# Altium integrated library Microchip Microcontroller 8-Bit PIC18.IntLib: 1070 symbols (part 17 of 43)
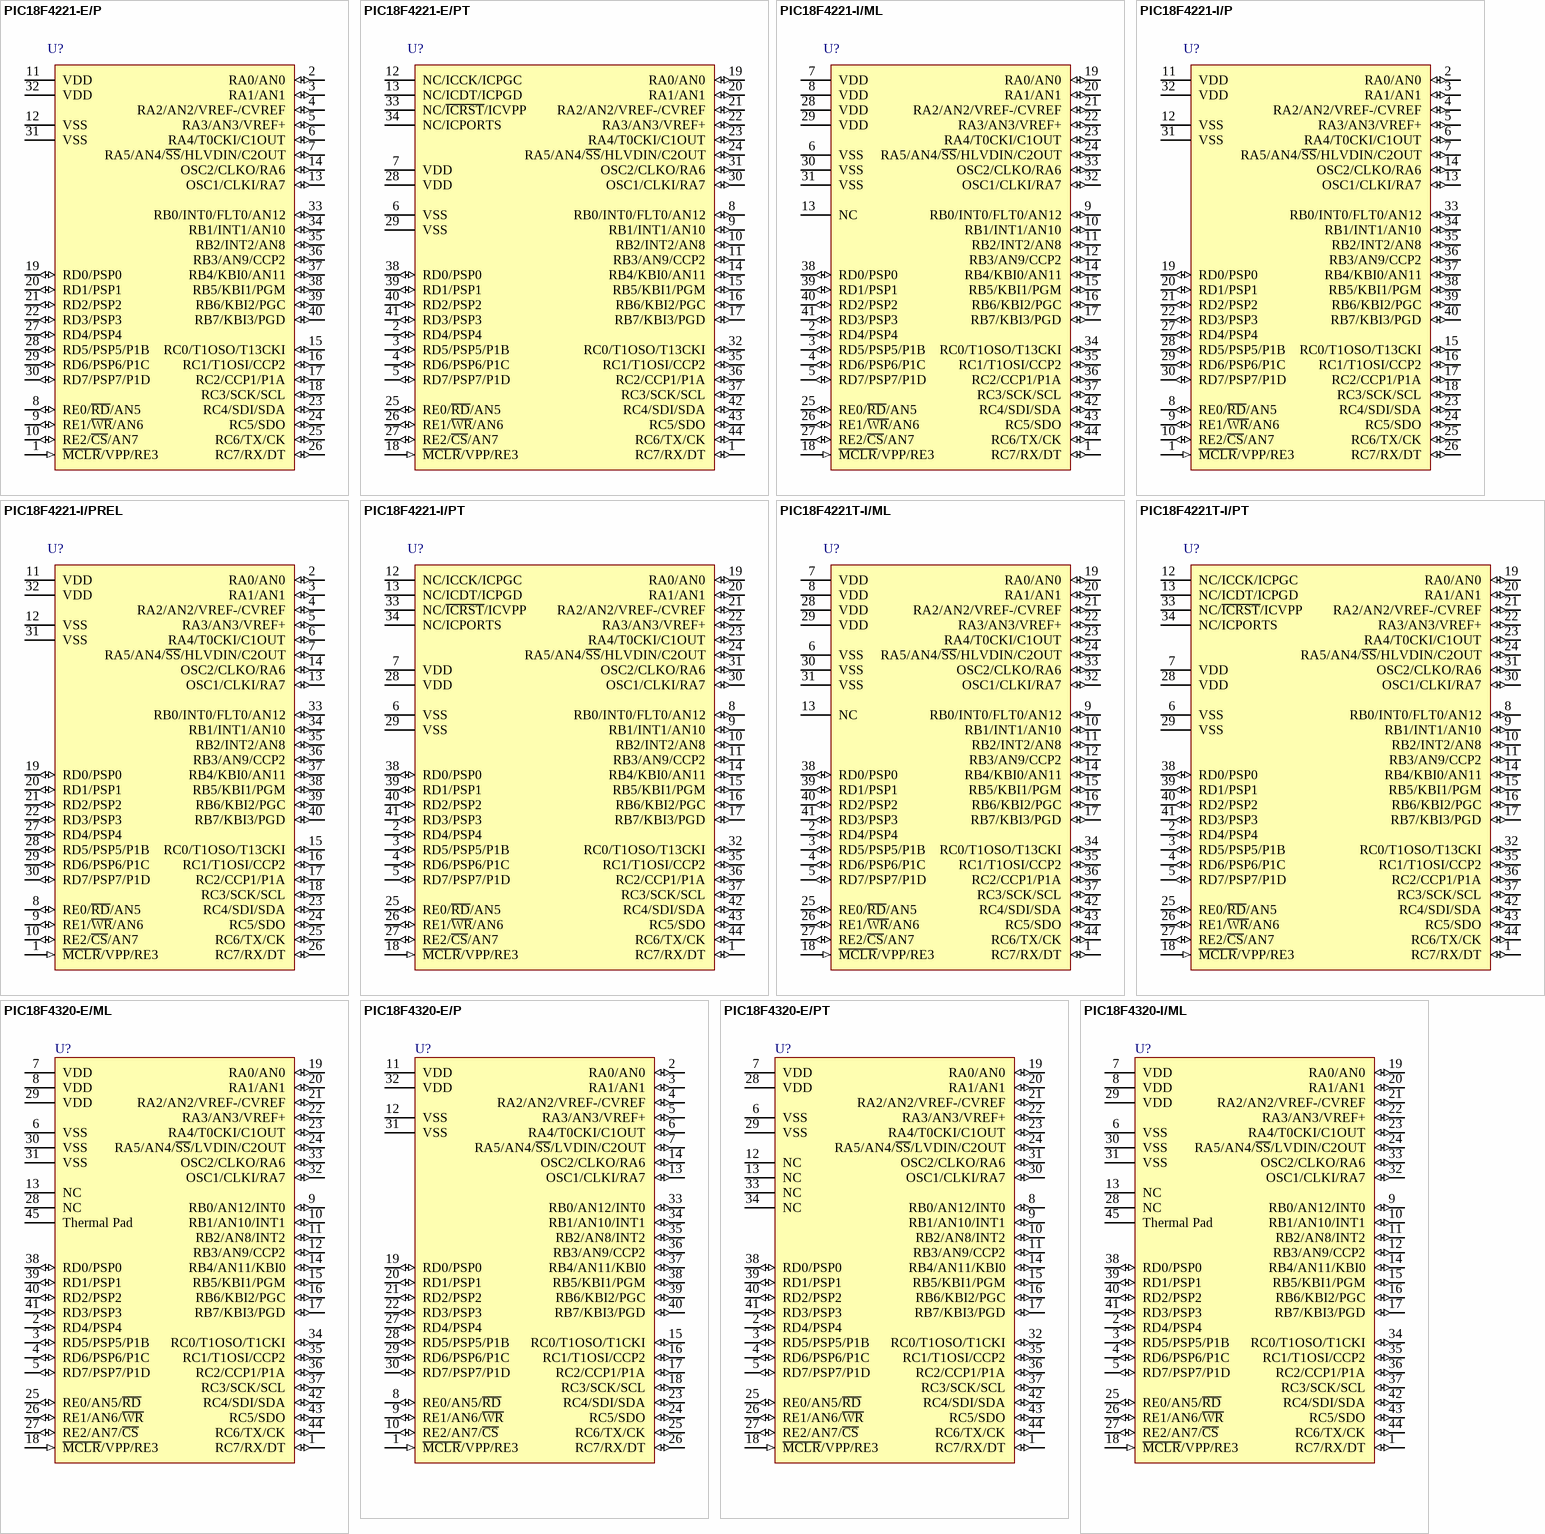
[diagram p140: symbols PIC18F4221-E/P to PIC18F4320-I/ML]

## PIC18F4320-E/PT
designator U?
High Performance, Enhanced Flash Microcontroller with 10-Bit A/D and nanoWatt Technology, 8K Flash, 44-Pin TQFP, Extended Temperature; Published: 11-Oct-2004; LatestRevisionDate: 29-Jan-2009; LatestRevisionNote: Sch. layout revised. 3D Model Removed.; DatasheetVersion: revG, Dec-2007; PackageVersion: revAW, Oct-2008; PackageReference: TQFP-PT44; Publisher: Altium Limited; PackageDescription: 44-Lead Plastic Thin Quad Flatpack (PT) - 10x10x1mm Body, 2.00mm [TQFP]; Code_JEDEC: MS-026; ComponentLink1Description: Manufacturer Link; ComponentLink1URL: http://www.microchip.com; ComponentLink2Description: Datasheet; ComponentLink2URL: http://ww1.microchip.com/downloads/en/DeviceDoc/39599g.pdf; ComponentLink3Description: Packaging Specification; ComponentLink3URL: http://ww1.microchip.com/downloads/en/PackagingSpec/00049AW.pdf
footprint TQFP-PT44_N (Thin QFP, 44-Leads, Body 10x10mm, Pitch 0.8mm, IPC Medium Density)
footprint TQFP-PT44_L (Thin QFP, 44-Leads, Body 10x10mm, Pitch 0.8mm, IPC High Density)
footprint TQFP-PT44_M (Thin QFP, 44-Leads, Body 10x10mm, Pitch 0.8mm, IPC Low Density)
pins: 1 RC7/RX/DT (io), 2 RD4/PSP4 (io), 3 RD5/PSP5/P1B (io), 4 RD6/PSP6/P1C (io), 5 RD7/PSP7/P1D (io), 6 VSS (power), 7 VDD (power), 8 RB0/AN12/INT0 (io), 9 RB1/AN10/INT1 (io), 10 RB2/AN8/INT2 (io), 11 RB3/AN9/CCP2 (io), 12 NC, 13 NC, 14 RB4/AN11/KBI0 (io), 15 RB5/KBI1/PGM (io), 16 RB6/KBI2/PGC (io), 17 RB7/KBI3/PGD (io), 18 ~{MCLR}/VPP/RE3 (in), 19 RA0/AN0 (io), 20 RA1/AN1 (io), 21 RA2/AN2/VREF-/CVREF (io), 22 RA3/AN3/VREF+ (io), 23 RA4/T0CKI/C1OUT (io), 24 RA5/AN4/~{SS}/LVDIN/C2OUT (io), 25 RE0/AN5/~{RD} (io), 26 RE1/AN6/~{WR} (io), 27 RE2/AN7/~{CS} (io), 28 VDD (power), 29 VSS (power), 30 OSC1/CLKI/RA7 (io), 31 OSC2/CLKO/RA6 (io), 32 RC0/T1OSO/T1CKI (io), 33 NC, 34 NC, 35 RC1/T1OSI/CCP2 (io), 36 RC2/CCP1/P1A (io), 37 RC3/SCK/SCL (io), 38 RD0/PSP0 (io), 39 RD1/PSP1 (io), 40 RD2/PSP2 (io), 41 RD3/PSP3 (io), 42 RC4/SDI/SDA (io), 43 RC5/SDO (io), 44 RC6/TX/CK (io)

## PIC18F4320-I/ML
designator U?
High Performance, Enhanced Flash Microcontroller with 10-Bit A/D and nanoWatt Technology, 8K Flash, 44-Pin QFN, Industrial Temperature; Published: 11-Oct-2004; LatestRevisionDate: 29-Jan-2009; LatestRevisionNote: Sch. layout revised. 3D Model Removed.; DatasheetVersion: revG, Dec-2007; PackageVersion: revAW, Oct-2008; PackageReference: QFN-ML44; Publisher: Altium Limited; PackageDescription: 44-Lead Plastic Quad Flat, No Lead Package (ML) - 8x8 mm Body [QFN]; Code_JEDEC: MO-220; Code_IPC: QFN65P800X800-44V2; ComponentLink1Description: Manufacturer Link; ComponentLink1URL: http://www.microchip.com; ComponentLink2Description: Datasheet; ComponentLink2URL: http://ww1.microchip.com/downloads/en/DeviceDoc/39599g.pdf; ComponentLink3Description: Packaging Specification; ComponentLink3URL: http://ww1.microchip.com/downloads/en/PackagingSpec/00049AW.pdf
footprint QFN-ML44_N (QFN, 44-Leads, Body 8x8 mm, Pitch 0.65mm, IPC Medium Density)
footprint QFN-ML44_L (QFN, 44-Leads, Body 8x8 mm, Pitch 0.65mm, IPC High Density)
footprint QFN-ML44_M (QFN, 44-Leads, Body 8x8 mm, Pitch 0.65mm, IPC Low Density)
pins: 1 RC7/RX/DT (io), 2 RD4/PSP4 (io), 3 RD5/PSP5/P1B (io), 4 RD6/PSP6/P1C (io), 5 RD7/PSP7/P1D (io), 6 VSS (power), 7 VDD (power), 8 VDD (power), 9 RB0/AN12/INT0 (io), 10 RB1/AN10/INT1 (io), 11 RB2/AN8/INT2 (io), 12 RB3/AN9/CCP2 (io), 13 NC, 14 RB4/AN11/KBI0 (io), 15 RB5/KBI1/PGM (io), 16 RB6/KBI2/PGC (io), 17 RB7/KBI3/PGD (io), 18 ~{MCLR}/VPP/RE3 (in), 19 RA0/AN0 (io), 20 RA1/AN1 (io), 21 RA2/AN2/VREF-/CVREF (io), 22 RA3/AN3/VREF+ (io), 23 RA4/T0CKI/C1OUT (io), 24 RA5/AN4/~{SS}/LVDIN/C2OUT (io), 25 RE0/AN5/~{RD} (io), 26 RE1/AN6/~{WR} (io), 27 RE2/AN7/~{CS} (io), 28 NC, 29 VDD (power), 30 VSS (power), 31 VSS (power), 32 OSC1/CLKI/RA7 (io), 33 OSC2/CLKO/RA6 (io), 34 RC0/T1OSO/T1CKI (io), 35 RC1/T1OSI/CCP2 (io), 36 RC2/CCP1/P1A (io), 37 RC3/SCK/SCL (io), 38 RD0/PSP0 (io), 39 RD1/PSP1 (io), 40 RD2/PSP2 (io), 41 RD3/PSP3 (io), 42 RC4/SDI/SDA (io), 43 RC5/SDO (io), 44 RC6/TX/CK (io), 45 Thermal Pad (power)

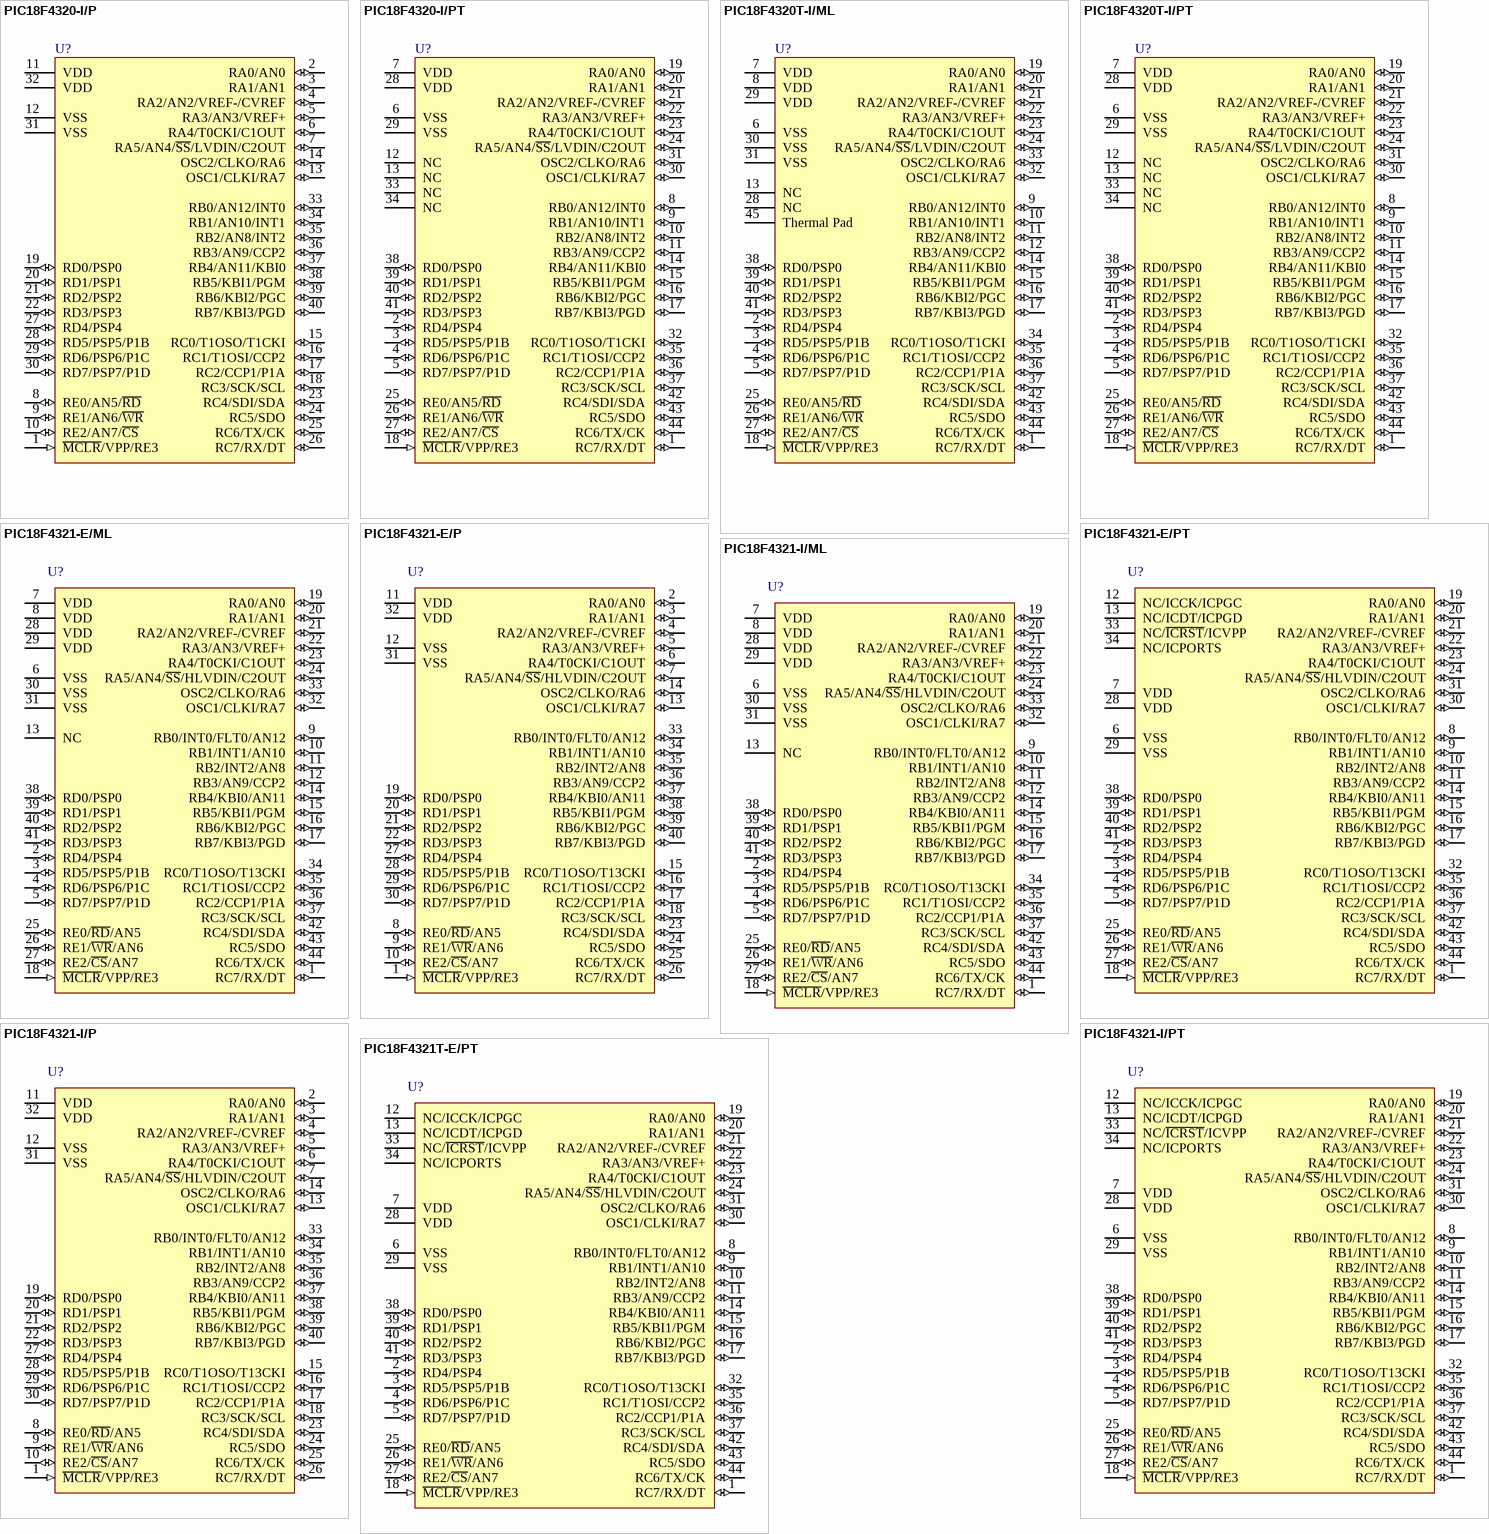
[diagram p49: symbols PIC18F4320-I/P to PIC18F4321T-E/PT]

## PIC18F4320-I/P
designator U?
High Performance, Enhanced Flash Microcontroller with 10-Bit A/D and nanoWatt Technology, 8K Flash, 40-Pin PDIP, Industrial Temperature; Published: 11-Oct-2004; LatestRevisionDate: 29-Jan-2009; LatestRevisionNote: Sch. layout revised. 3D Model Removed.; DatasheetVersion: revG, Dec-2007; PackageVersion: revAW, Oct-2008; PackageReference: PDIP600-P40; Publisher: Altium Limited; PackageDescription: 40-Lead Plastic Dual In-Line (P) - 600 mil Body [PDIP]; ComponentLink1Description: Manufacturer Link; ComponentLink1URL: http://www.microchip.com; ComponentLink2Description: Datasheet; ComponentLink2URL: http://ww1.microchip.com/downloads/en/DeviceDoc/39599g.pdf; ComponentLink3Description: Packaging Specification; ComponentLink3URL: http://ww1.microchip.com/downloads/en/PackagingSpec/00049AW.pdf
footprint PDIP600-P40 (DIP, 40-Leads, Row Spacing 15.24mm, Pitch 2.54mm, Body 51.8x13.5mm)
pins: 1 ~{MCLR}/VPP/RE3 (in), 2 RA0/AN0 (io), 3 RA1/AN1 (io), 4 RA2/AN2/VREF-/CVREF (io), 5 RA3/AN3/VREF+ (io), 6 RA4/T0CKI/C1OUT (io), 7 RA5/AN4/~{SS}/LVDIN/C2OUT (io), 8 RE0/AN5/~{RD} (io), 9 RE1/AN6/~{WR} (io), 10 RE2/AN7/~{CS} (io), 11 VDD (power), 12 VSS (power), 13 OSC1/CLKI/RA7 (io), 14 OSC2/CLKO/RA6 (io), 15 RC0/T1OSO/T1CKI (io), 16 RC1/T1OSI/CCP2 (io), 17 RC2/CCP1/P1A (io), 18 RC3/SCK/SCL (io), 19 RD0/PSP0 (io), 20 RD1/PSP1 (io), 21 RD2/PSP2 (io), 22 RD3/PSP3 (io), 23 RC4/SDI/SDA (io), 24 RC5/SDO (io), 25 RC6/TX/CK (io), 26 RC7/RX/DT (io), 27 RD4/PSP4 (io), 28 RD5/PSP5/P1B (io), 29 RD6/PSP6/P1C (io), 30 RD7/PSP7/P1D (io), 31 VSS (power), 32 VDD (power), 33 RB0/AN12/INT0 (io), 34 RB1/AN10/INT1 (io), 35 RB2/AN8/INT2 (io), 36 RB3/AN9/CCP2 (io), 37 RB4/AN11/KBI0 (io), 38 RB5/KBI1/PGM (io), 39 RB6/KBI2/PGC (io), 40 RB7/KBI3/PGD (io)

## PIC18F4320-I/PT
designator U?
High Performance, Enhanced Flash Microcontroller with 10-Bit A/D and nanoWatt Technology, 8K Flash, 44-Pin TQFP, Industrial Temperature; Published: 11-Oct-2004; LatestRevisionDate: 29-Jan-2009; LatestRevisionNote: Sch. layout revised. 3D Model Removed.; DatasheetVersion: revG, Dec-2007; PackageVersion: revAW, Oct-2008; PackageReference: TQFP-PT44; Publisher: Altium Limited; PackageDescription: 44-Lead Plastic Thin Quad Flatpack (PT) - 10x10x1mm Body, 2.00mm [TQFP]; Code_JEDEC: MS-026; ComponentLink1Description: Manufacturer Link; ComponentLink1URL: http://www.microchip.com; ComponentLink2Description: Datasheet; ComponentLink2URL: http://ww1.microchip.com/downloads/en/DeviceDoc/39599g.pdf; ComponentLink3Description: Packaging Specification; ComponentLink3URL: http://ww1.microchip.com/downloads/en/PackagingSpec/00049AW.pdf
footprint TQFP-PT44_N (Thin QFP, 44-Leads, Body 10x10mm, Pitch 0.8mm, IPC Medium Density)
footprint TQFP-PT44_L (Thin QFP, 44-Leads, Body 10x10mm, Pitch 0.8mm, IPC High Density)
footprint TQFP-PT44_M (Thin QFP, 44-Leads, Body 10x10mm, Pitch 0.8mm, IPC Low Density)
pins: 1 RC7/RX/DT (io), 2 RD4/PSP4 (io), 3 RD5/PSP5/P1B (io), 4 RD6/PSP6/P1C (io), 5 RD7/PSP7/P1D (io), 6 VSS (power), 7 VDD (power), 8 RB0/AN12/INT0 (io), 9 RB1/AN10/INT1 (io), 10 RB2/AN8/INT2 (io), 11 RB3/AN9/CCP2 (io), 12 NC, 13 NC, 14 RB4/AN11/KBI0 (io), 15 RB5/KBI1/PGM (io), 16 RB6/KBI2/PGC (io), 17 RB7/KBI3/PGD (io), 18 ~{MCLR}/VPP/RE3 (in), 19 RA0/AN0 (io), 20 RA1/AN1 (io), 21 RA2/AN2/VREF-/CVREF (io), 22 RA3/AN3/VREF+ (io), 23 RA4/T0CKI/C1OUT (io), 24 RA5/AN4/~{SS}/LVDIN/C2OUT (io), 25 RE0/AN5/~{RD} (io), 26 RE1/AN6/~{WR} (io), 27 RE2/AN7/~{CS} (io), 28 VDD (power), 29 VSS (power), 30 OSC1/CLKI/RA7 (io), 31 OSC2/CLKO/RA6 (io), 32 RC0/T1OSO/T1CKI (io), 33 NC, 34 NC, 35 RC1/T1OSI/CCP2 (io), 36 RC2/CCP1/P1A (io), 37 RC3/SCK/SCL (io), 38 RD0/PSP0 (io), 39 RD1/PSP1 (io), 40 RD2/PSP2 (io), 41 RD3/PSP3 (io), 42 RC4/SDI/SDA (io), 43 RC5/SDO (io), 44 RC6/TX/CK (io)

## PIC18F4320T-I/ML
designator U?
High Performance, Enhanced Flash Microcontroller with 10-Bit A/D and nanoWatt Technology, 8K Flash, 44-Pin QFN, Industrial Temperature, Tape and Reel; Published: 11-Oct-2004; LatestRevisionDate: 29-Jan-2009; LatestRevisionNote: Sch. layout revised. 3D Model Removed.; DatasheetVersion: revG, Dec-2007; PackageVersion: revAW, Oct-2008; PackageReference: QFN-ML44; Publisher: Altium Limited; PackageDescription: 44-Lead Plastic Quad Flat, No Lead Package (ML) - 8x8 mm Body [QFN]; Code_JEDEC: MO-220; Code_IPC: QFN65P800X800-44V2; ComponentLink1Description: Manufacturer Link; ComponentLink1URL: http://www.microchip.com; ComponentLink2Description: Datasheet; ComponentLink2URL: http://ww1.microchip.com/downloads/en/DeviceDoc/39599g.pdf; ComponentLink3Description: Packaging Specification; ComponentLink3URL: http://ww1.microchip.com/downloads/en/PackagingSpec/00049AW.pdf
footprint QFN-ML44_N (QFN, 44-Leads, Body 8x8 mm, Pitch 0.65mm, IPC Medium Density)
footprint QFN-ML44_L (QFN, 44-Leads, Body 8x8 mm, Pitch 0.65mm, IPC High Density)
footprint QFN-ML44_M (QFN, 44-Leads, Body 8x8 mm, Pitch 0.65mm, IPC Low Density)
pins: 1 RC7/RX/DT (io), 2 RD4/PSP4 (io), 3 RD5/PSP5/P1B (io), 4 RD6/PSP6/P1C (io), 5 RD7/PSP7/P1D (io), 6 VSS (power), 7 VDD (power), 8 VDD (power), 9 RB0/AN12/INT0 (io), 10 RB1/AN10/INT1 (io), 11 RB2/AN8/INT2 (io), 12 RB3/AN9/CCP2 (io), 13 NC, 14 RB4/AN11/KBI0 (io), 15 RB5/KBI1/PGM (io), 16 RB6/KBI2/PGC (io), 17 RB7/KBI3/PGD (io), 18 ~{MCLR}/VPP/RE3 (in), 19 RA0/AN0 (io), 20 RA1/AN1 (io), 21 RA2/AN2/VREF-/CVREF (io), 22 RA3/AN3/VREF+ (io), 23 RA4/T0CKI/C1OUT (io), 24 RA5/AN4/~{SS}/LVDIN/C2OUT (io), 25 RE0/AN5/~{RD} (io), 26 RE1/AN6/~{WR} (io), 27 RE2/AN7/~{CS} (io), 28 NC, 29 VDD (power), 30 VSS (power), 31 VSS (power), 32 OSC1/CLKI/RA7 (io), 33 OSC2/CLKO/RA6 (io), 34 RC0/T1OSO/T1CKI (io), 35 RC1/T1OSI/CCP2 (io), 36 RC2/CCP1/P1A (io), 37 RC3/SCK/SCL (io), 38 RD0/PSP0 (io), 39 RD1/PSP1 (io), 40 RD2/PSP2 (io), 41 RD3/PSP3 (io), 42 RC4/SDI/SDA (io), 43 RC5/SDO (io), 44 RC6/TX/CK (io), 45 Thermal Pad (power)

## PIC18F4320T-I/PT
designator U?
High Performance, Enhanced Flash Microcontroller with 10-Bit A/D and nanoWatt Technology, 8K Flash, 44-Pin TQFP, Industrial Temperature, Tape and Reel; Published: 11-Oct-2004; LatestRevisionDate: 29-Jan-2009; LatestRevisionNote: Sch. layout revised. 3D Model Removed.; DatasheetVersion: revG, Dec-2007; PackageVersion: revAW, Oct-2008; PackageReference: TQFP-PT44; Publisher: Altium Limited; PackageDescription: 44-Lead Plastic Thin Quad Flatpack (PT) - 10x10x1mm Body, 2.00mm [TQFP]; Code_JEDEC: MS-026; ComponentLink1Description: Manufacturer Link; ComponentLink1URL: http://www.microchip.com; ComponentLink2Description: Datasheet; ComponentLink2URL: http://ww1.microchip.com/downloads/en/DeviceDoc/39599g.pdf; ComponentLink3Description: Packaging Specification; ComponentLink3URL: http://ww1.microchip.com/downloads/en/PackagingSpec/00049AW.pdf
footprint TQFP-PT44_N (Thin QFP, 44-Leads, Body 10x10mm, Pitch 0.8mm, IPC Medium Density)
footprint TQFP-PT44_L (Thin QFP, 44-Leads, Body 10x10mm, Pitch 0.8mm, IPC High Density)
footprint TQFP-PT44_M (Thin QFP, 44-Leads, Body 10x10mm, Pitch 0.8mm, IPC Low Density)
pins: 1 RC7/RX/DT (io), 2 RD4/PSP4 (io), 3 RD5/PSP5/P1B (io), 4 RD6/PSP6/P1C (io), 5 RD7/PSP7/P1D (io), 6 VSS (power), 7 VDD (power), 8 RB0/AN12/INT0 (io), 9 RB1/AN10/INT1 (io), 10 RB2/AN8/INT2 (io), 11 RB3/AN9/CCP2 (io), 12 NC, 13 NC, 14 RB4/AN11/KBI0 (io), 15 RB5/KBI1/PGM (io), 16 RB6/KBI2/PGC (io), 17 RB7/KBI3/PGD (io), 18 ~{MCLR}/VPP/RE3 (in), 19 RA0/AN0 (io), 20 RA1/AN1 (io), 21 RA2/AN2/VREF-/CVREF (io), 22 RA3/AN3/VREF+ (io), 23 RA4/T0CKI/C1OUT (io), 24 RA5/AN4/~{SS}/LVDIN/C2OUT (io), 25 RE0/AN5/~{RD} (io), 26 RE1/AN6/~{WR} (io), 27 RE2/AN7/~{CS} (io), 28 VDD (power), 29 VSS (power), 30 OSC1/CLKI/RA7 (io), 31 OSC2/CLKO/RA6 (io), 32 RC0/T1OSO/T1CKI (io), 33 NC, 34 NC, 35 RC1/T1OSI/CCP2 (io), 36 RC2/CCP1/P1A (io), 37 RC3/SCK/SCL (io), 38 RD0/PSP0 (io), 39 RD1/PSP1 (io), 40 RD2/PSP2 (io), 41 RD3/PSP3 (io), 42 RC4/SDI/SDA (io), 43 RC5/SDO (io), 44 RC6/TX/CK (io)

## PIC18F4321-E/ML
designator U?
Enhanced Flash Microcontroller with 10-Bit A/D and nanoWatt Technology, 8K Flash, 44-Pin QFN, Extended Temperature Range; Published: 29-Jan-2009; DatasheetVersion: revE, Feb-2007; PackageVersion: revAW, Oct-2008; PackageReference: QFN-ML44; Publisher: Altium Limited; PackageDescription: 44-Lead Plastic Quad Flat, No Lead Package (ML) - 8x8 mm Body [QFN]; Code_JEDEC: MO-220; Code_IPC: QFN65P800X800-44V2; ComponentLink1Description: Manufacturer Link; ComponentLink1URL: http://www.microchip.com; ComponentLink2Description: Datasheet; ComponentLink2URL: http://ww1.microchip.com/downloads/en/DeviceDoc/39689E.pdf; ComponentLink3Description: Packaging Specification; ComponentLink3URL: http://ww1.microchip.com/downloads/en/PackagingSpec/00049AW.pdf
footprint QFN-ML44_N (QFN, 44-Leads, Body 8x8 mm, Pitch 0.65mm, IPC Medium Density)
footprint QFN-ML44_L (QFN, 44-Leads, Body 8x8 mm, Pitch 0.65mm, IPC High Density)
footprint QFN-ML44_M (QFN, 44-Leads, Body 8x8 mm, Pitch 0.65mm, IPC Low Density)
pins: 1 RC7/RX/DT (io), 2 RD4/PSP4 (io), 3 RD5/PSP5/P1B (io), 4 RD6/PSP6/P1C (io), 5 RD7/PSP7/P1D (io), 6 VSS (power), 7 VDD (power), 8 VDD (power), 9 RB0/INT0/FLT0/AN12 (io), 10 RB1/INT1/AN10 (io), 11 RB2/INT2/AN8 (io), 12 RB3/AN9/CCP2 (io), 13 NC, 14 RB4/KBI0/AN11 (io), 15 RB5/KBI1/PGM (io), 16 RB6/KBI2/PGC (io), 17 RB7/KBI3/PGD (io), 18 ~{MCLR}/VPP/RE3 (in), 19 RA0/AN0 (io), 20 RA1/AN1 (io), 21 RA2/AN2/VREF-/CVREF (io), 22 RA3/AN3/VREF+ (io), 23 RA4/T0CKI/C1OUT (io), 24 RA5/AN4/~{SS}/HLVDIN/C2OUT (io), 25 RE0/~{RD}/AN5 (io), 26 RE1/~{WR}/AN6 (io), 27 RE2/~{CS}/AN7 (io), 28 VDD (power), 29 VDD (power), 30 VSS (power), 31 VSS (power), 32 OSC1/CLKI/RA7 (io), 33 OSC2/CLKO/RA6 (io), 34 RC0/T1OSO/T13CKI (io), 35 RC1/T1OSI/CCP2 (io), 36 RC2/CCP1/P1A (io), 37 RC3/SCK/SCL (io), 38 RD0/PSP0 (io), 39 RD1/PSP1 (io), 40 RD2/PSP2 (io), 41 RD3/PSP3 (io), 42 RC4/SDI/SDA (io), 43 RC5/SDO (io), 44 RC6/TX/CK (io)

## PIC18F4321-E/P
designator U?
Enhanced Flash Microcontroller with 10-Bit A/D and nanoWatt Technology, 8K Flash, 40-Pin PDIP, Extended Temperature Range; Published: 29-Jan-2009; DatasheetVersion: revE, Feb-2007; PackageVersion: revAW, Oct-2008; PackageReference: PDIP600-P40; Publisher: Altium Limited; PackageDescription: 40-Lead Plastic Dual In-Line (P) - 600 mil Body [PDIP]; ComponentLink1Description: Manufacturer Link; ComponentLink1URL: http://www.microchip.com; ComponentLink2Description: Datasheet; ComponentLink2URL: http://ww1.microchip.com/downloads/en/DeviceDoc/39689E.pdf; ComponentLink3Description: Packaging Specification; ComponentLink3URL: http://ww1.microchip.com/downloads/en/PackagingSpec/00049AW.pdf
footprint PDIP600-P40 (DIP, 40-Leads, Row Spacing 15.24mm, Pitch 2.54mm, Body 51.8x13.5mm)
pins: 1 ~{MCLR}/VPP/RE3 (in), 2 RA0/AN0 (io), 3 RA1/AN1 (io), 4 RA2/AN2/VREF-/CVREF (io), 5 RA3/AN3/VREF+ (io), 6 RA4/T0CKI/C1OUT (io), 7 RA5/AN4/~{SS}/HLVDIN/C2OUT (io), 8 RE0/~{RD}/AN5 (io), 9 RE1/~{WR}/AN6 (io), 10 RE2/~{CS}/AN7 (io), 11 VDD (power), 12 VSS (power), 13 OSC1/CLKI/RA7 (io), 14 OSC2/CLKO/RA6 (io), 15 RC0/T1OSO/T13CKI (io), 16 RC1/T1OSI/CCP2 (io), 17 RC2/CCP1/P1A (io), 18 RC3/SCK/SCL (io), 19 RD0/PSP0 (io), 20 RD1/PSP1 (io), 21 RD2/PSP2 (io), 22 RD3/PSP3 (io), 23 RC4/SDI/SDA (io), 24 RC5/SDO (io), 25 RC6/TX/CK (io), 26 RC7/RX/DT (io), 27 RD4/PSP4 (io), 28 RD5/PSP5/P1B (io), 29 RD6/PSP6/P1C (io), 30 RD7/PSP7/P1D (io), 31 VSS (power), 32 VDD (power), 33 RB0/INT0/FLT0/AN12 (io), 34 RB1/INT1/AN10 (io), 35 RB2/INT2/AN8 (io), 36 RB3/AN9/CCP2 (io), 37 RB4/KBI0/AN11 (io), 38 RB5/KBI1/PGM (io), 39 RB6/KBI2/PGC (io), 40 RB7/KBI3/PGD (io)

## PIC18F4321-E/PT
designator U?
Enhanced Flash Microcontroller with 10-Bit A/D and nanoWatt Technology, 8K Flash, 44-Pin TQFP, Extended Temperature Range; Published: 29-Jan-2009; DatasheetVersion: revE, Feb-2007; PackageVersion: revAW, Oct-2008; PackageReference: TQFP-PT44; Publisher: Altium Limited; PackageDescription: 44-Lead Plastic Thin Quad Flatpack (PT) - 10x10x1mm Body, 2.00mm [TQFP]; Code_JEDEC: MS-026; ComponentLink1Description: Manufacturer Link; ComponentLink1URL: http://www.microchip.com; ComponentLink2Description: Datasheet; ComponentLink2URL: http://ww1.microchip.com/downloads/en/DeviceDoc/39689E.pdf; ComponentLink3Description: Packaging Specification; ComponentLink3URL: http://ww1.microchip.com/downloads/en/PackagingSpec/00049AW.pdf
footprint TQFP-PT44_N (Thin QFP, 44-Leads, Body 10x10mm, Pitch 0.8mm, IPC Medium Density)
footprint TQFP-PT44_L (Thin QFP, 44-Leads, Body 10x10mm, Pitch 0.8mm, IPC High Density)
footprint TQFP-PT44_M (Thin QFP, 44-Leads, Body 10x10mm, Pitch 0.8mm, IPC Low Density)
pins: 1 RC7/RX/DT (io), 2 RD4/PSP4 (io), 3 RD5/PSP5/P1B (io), 4 RD6/PSP6/P1C (io), 5 RD7/PSP7/P1D (io), 6 VSS (power), 7 VDD (power), 8 RB0/INT0/FLT0/AN12 (io), 9 RB1/INT1/AN10 (io), 10 RB2/INT2/AN8 (io), 11 RB3/AN9/CCP2 (io), 12 NC/ICCK/ICPGC, 13 NC/ICDT/ICPGD, 14 RB4/KBI0/AN11 (io), 15 RB5/KBI1/PGM (io), 16 RB6/KBI2/PGC (io), 17 RB7/KBI3/PGD (io), 18 ~{MCLR}/VPP/RE3 (in), 19 RA0/AN0 (io), 20 RA1/AN1 (io), 21 RA2/AN2/VREF-/CVREF (io), 22 RA3/AN3/VREF+ (io), 23 RA4/T0CKI/C1OUT (io), 24 RA5/AN4/~{SS}/HLVDIN/C2OUT (io), 25 RE0/~{RD}/AN5 (io), 26 RE1/~{WR}/AN6 (io), 27 RE2/~{CS}/AN7 (io), 28 VDD (power), 29 VSS (power), 30 OSC1/CLKI/RA7 (io), 31 OSC2/CLKO/RA6 (io), 32 RC0/T1OSO/T13CKI (io), 33 NC/~{ICRST}/ICVPP, 34 NC/ICPORTS, 35 RC1/T1OSI/CCP2 (io), 36 RC2/CCP1/P1A (io), 37 RC3/SCK/SCL (io), 38 RD0/PSP0 (io), 39 RD1/PSP1 (io), 40 RD2/PSP2 (io), 41 RD3/PSP3 (io), 42 RC4/SDI/SDA (io), 43 RC5/SDO (io), 44 RC6/TX/CK (io)

## PIC18F4321-I/ML
designator U?
Enhanced Flash Microcontroller with 10-Bit A/D and nanoWatt Technology, 8K Flash, 44-Pin QFN, Industrial Temperature Range; Published: 29-Jan-2009; DatasheetVersion: revE, Feb-2007; PackageVersion: revAW, Oct-2008; PackageReference: QFN-ML44; Publisher: Altium Limited; PackageDescription: 44-Lead Plastic Quad Flat, No Lead Package (ML) - 8x8 mm Body [QFN]; Code_JEDEC: MO-220; Code_IPC: QFN65P800X800-44V2; ComponentLink1Description: Manufacturer Link; ComponentLink1URL: http://www.microchip.com; ComponentLink2Description: Datasheet; ComponentLink2URL: http://ww1.microchip.com/downloads/en/DeviceDoc/39689E.pdf; ComponentLink3Description: Packaging Specification; ComponentLink3URL: http://ww1.microchip.com/downloads/en/PackagingSpec/00049AW.pdf
footprint QFN-ML44_N (QFN, 44-Leads, Body 8x8 mm, Pitch 0.65mm, IPC Medium Density)
footprint QFN-ML44_L (QFN, 44-Leads, Body 8x8 mm, Pitch 0.65mm, IPC High Density)
footprint QFN-ML44_M (QFN, 44-Leads, Body 8x8 mm, Pitch 0.65mm, IPC Low Density)
pins: 1 RC7/RX/DT (io), 2 RD4/PSP4 (io), 3 RD5/PSP5/P1B (io), 4 RD6/PSP6/P1C (io), 5 RD7/PSP7/P1D (io), 6 VSS (power), 7 VDD (power), 8 VDD (power), 9 RB0/INT0/FLT0/AN12 (io), 10 RB1/INT1/AN10 (io), 11 RB2/INT2/AN8 (io), 12 RB3/AN9/CCP2 (io), 13 NC, 14 RB4/KBI0/AN11 (io), 15 RB5/KBI1/PGM (io), 16 RB6/KBI2/PGC (io), 17 RB7/KBI3/PGD (io), 18 ~{MCLR}/VPP/RE3 (in), 19 RA0/AN0 (io), 20 RA1/AN1 (io), 21 RA2/AN2/VREF-/CVREF (io), 22 RA3/AN3/VREF+ (io), 23 RA4/T0CKI/C1OUT (io), 24 RA5/AN4/~{SS}/HLVDIN/C2OUT (io), 25 RE0/~{RD}/AN5 (io), 26 RE1/~{WR}/AN6 (io), 27 RE2/~{CS}/AN7 (io), 28 VDD (power), 29 VDD (power), 30 VSS (power), 31 VSS (power), 32 OSC1/CLKI/RA7 (io), 33 OSC2/CLKO/RA6 (io), 34 RC0/T1OSO/T13CKI (io), 35 RC1/T1OSI/CCP2 (io), 36 RC2/CCP1/P1A (io), 37 RC3/SCK/SCL (io), 38 RD0/PSP0 (io), 39 RD1/PSP1 (io), 40 RD2/PSP2 (io), 41 RD3/PSP3 (io), 42 RC4/SDI/SDA (io), 43 RC5/SDO (io), 44 RC6/TX/CK (io)

## PIC18F4321-I/P
designator U?
Enhanced Flash Microcontroller with 10-Bit A/D and nanoWatt Technology, 8K Flash, 40-Pin PDIP, Industrial Temperature Range; Published: 29-Jan-2009; DatasheetVersion: revE, Feb-2007; PackageVersion: revAW, Oct-2008; PackageReference: PDIP600-P40; Publisher: Altium Limited; PackageDescription: 40-Lead Plastic Dual In-Line (P) - 600 mil Body [PDIP]; ComponentLink1Description: Manufacturer Link; ComponentLink1URL: http://www.microchip.com; ComponentLink2Description: Datasheet; ComponentLink2URL: http://ww1.microchip.com/downloads/en/DeviceDoc/39689E.pdf; ComponentLink3Description: Packaging Specification; ComponentLink3URL: http://ww1.microchip.com/downloads/en/PackagingSpec/00049AW.pdf
footprint PDIP600-P40 (DIP, 40-Leads, Row Spacing 15.24mm, Pitch 2.54mm, Body 51.8x13.5mm)
pins: 1 ~{MCLR}/VPP/RE3 (in), 2 RA0/AN0 (io), 3 RA1/AN1 (io), 4 RA2/AN2/VREF-/CVREF (io), 5 RA3/AN3/VREF+ (io), 6 RA4/T0CKI/C1OUT (io), 7 RA5/AN4/~{SS}/HLVDIN/C2OUT (io), 8 RE0/~{RD}/AN5 (io), 9 RE1/~{WR}/AN6 (io), 10 RE2/~{CS}/AN7 (io), 11 VDD (power), 12 VSS (power), 13 OSC1/CLKI/RA7 (io), 14 OSC2/CLKO/RA6 (io), 15 RC0/T1OSO/T13CKI (io), 16 RC1/T1OSI/CCP2 (io), 17 RC2/CCP1/P1A (io), 18 RC3/SCK/SCL (io), 19 RD0/PSP0 (io), 20 RD1/PSP1 (io), 21 RD2/PSP2 (io), 22 RD3/PSP3 (io), 23 RC4/SDI/SDA (io), 24 RC5/SDO (io), 25 RC6/TX/CK (io), 26 RC7/RX/DT (io), 27 RD4/PSP4 (io), 28 RD5/PSP5/P1B (io), 29 RD6/PSP6/P1C (io), 30 RD7/PSP7/P1D (io), 31 VSS (power), 32 VDD (power), 33 RB0/INT0/FLT0/AN12 (io), 34 RB1/INT1/AN10 (io), 35 RB2/INT2/AN8 (io), 36 RB3/AN9/CCP2 (io), 37 RB4/KBI0/AN11 (io), 38 RB5/KBI1/PGM (io), 39 RB6/KBI2/PGC (io), 40 RB7/KBI3/PGD (io)

## PIC18F4321-I/PT
designator U?
Enhanced Flash Microcontroller with 10-Bit A/D and nanoWatt Technology, 8K Flash, 44-Pin TQFP, Industrial Temperature Range; Published: 29-Jan-2009; DatasheetVersion: revE, Feb-2007; PackageVersion: revAW, Oct-2008; PackageReference: TQFP-PT44; Publisher: Altium Limited; PackageDescription: 44-Lead Plastic Thin Quad Flatpack (PT) - 10x10x1mm Body, 2.00mm [TQFP]; Code_JEDEC: MS-026; ComponentLink1Description: Manufacturer Link; ComponentLink1URL: http://www.microchip.com; ComponentLink2Description: Datasheet; ComponentLink2URL: http://ww1.microchip.com/downloads/en/DeviceDoc/39689E.pdf; ComponentLink3Description: Packaging Specification; ComponentLink3URL: http://ww1.microchip.com/downloads/en/PackagingSpec/00049AW.pdf
footprint TQFP-PT44_N (Thin QFP, 44-Leads, Body 10x10mm, Pitch 0.8mm, IPC Medium Density)
footprint TQFP-PT44_L (Thin QFP, 44-Leads, Body 10x10mm, Pitch 0.8mm, IPC High Density)
footprint TQFP-PT44_M (Thin QFP, 44-Leads, Body 10x10mm, Pitch 0.8mm, IPC Low Density)
pins: 1 RC7/RX/DT (io), 2 RD4/PSP4 (io), 3 RD5/PSP5/P1B (io), 4 RD6/PSP6/P1C (io), 5 RD7/PSP7/P1D (io), 6 VSS (power), 7 VDD (power), 8 RB0/INT0/FLT0/AN12 (io), 9 RB1/INT1/AN10 (io), 10 RB2/INT2/AN8 (io), 11 RB3/AN9/CCP2 (io), 12 NC/ICCK/ICPGC, 13 NC/ICDT/ICPGD, 14 RB4/KBI0/AN11 (io), 15 RB5/KBI1/PGM (io), 16 RB6/KBI2/PGC (io), 17 RB7/KBI3/PGD (io), 18 ~{MCLR}/VPP/RE3 (in), 19 RA0/AN0 (io), 20 RA1/AN1 (io), 21 RA2/AN2/VREF-/CVREF (io), 22 RA3/AN3/VREF+ (io), 23 RA4/T0CKI/C1OUT (io), 24 RA5/AN4/~{SS}/HLVDIN/C2OUT (io), 25 RE0/~{RD}/AN5 (io), 26 RE1/~{WR}/AN6 (io), 27 RE2/~{CS}/AN7 (io), 28 VDD (power), 29 VSS (power), 30 OSC1/CLKI/RA7 (io), 31 OSC2/CLKO/RA6 (io), 32 RC0/T1OSO/T13CKI (io), 33 NC/~{ICRST}/ICVPP, 34 NC/ICPORTS, 35 RC1/T1OSI/CCP2 (io), 36 RC2/CCP1/P1A (io), 37 RC3/SCK/SCL (io), 38 RD0/PSP0 (io), 39 RD1/PSP1 (io), 40 RD2/PSP2 (io), 41 RD3/PSP3 (io), 42 RC4/SDI/SDA (io), 43 RC5/SDO (io), 44 RC6/TX/CK (io)

## PIC18F4321T-E/PT
designator U?
Enhanced Flash Microcontroller with 10-Bit A/D and nanoWatt Technology, 8K Flash, 44-Pin TQFP, Extended Temperature Range, Tape and Reel; Published: 29-Jan-2009; DatasheetVersion: revE, Feb-2007; PackageVersion: revAW, Oct-2008; PackageReference: TQFP-PT44; Publisher: Altium Limited; PackageDescription: 44-Lead Plastic Thin Quad Flatpack (PT) - 10x10x1mm Body, 2.00mm [TQFP]; Code_JEDEC: MS-026; ComponentLink1Description: Manufacturer Link; ComponentLink1URL: http://www.microchip.com; ComponentLink2Description: Datasheet; ComponentLink2URL: http://ww1.microchip.com/downloads/en/DeviceDoc/39689E.pdf; ComponentLink3Description: Packaging Specification; ComponentLink3URL: http://ww1.microchip.com/downloads/en/PackagingSpec/00049AW.pdf
footprint TQFP-PT44_N (Thin QFP, 44-Leads, Body 10x10mm, Pitch 0.8mm, IPC Medium Density)
footprint TQFP-PT44_L (Thin QFP, 44-Leads, Body 10x10mm, Pitch 0.8mm, IPC High Density)
footprint TQFP-PT44_M (Thin QFP, 44-Leads, Body 10x10mm, Pitch 0.8mm, IPC Low Density)
pins: 1 RC7/RX/DT (io), 2 RD4/PSP4 (io), 3 RD5/PSP5/P1B (io), 4 RD6/PSP6/P1C (io), 5 RD7/PSP7/P1D (io), 6 VSS (power), 7 VDD (power), 8 RB0/INT0/FLT0/AN12 (io), 9 RB1/INT1/AN10 (io), 10 RB2/INT2/AN8 (io), 11 RB3/AN9/CCP2 (io), 12 NC/ICCK/ICPGC, 13 NC/ICDT/ICPGD, 14 RB4/KBI0/AN11 (io), 15 RB5/KBI1/PGM (io), 16 RB6/KBI2/PGC (io), 17 RB7/KBI3/PGD (io), 18 ~{MCLR}/VPP/RE3 (in), 19 RA0/AN0 (io), 20 RA1/AN1 (io), 21 RA2/AN2/VREF-/CVREF (io), 22 RA3/AN3/VREF+ (io), 23 RA4/T0CKI/C1OUT (io), 24 RA5/AN4/~{SS}/HLVDIN/C2OUT (io), 25 RE0/~{RD}/AN5 (io), 26 RE1/~{WR}/AN6 (io), 27 RE2/~{CS}/AN7 (io), 28 VDD (power), 29 VSS (power), 30 OSC1/CLKI/RA7 (io), 31 OSC2/CLKO/RA6 (io), 32 RC0/T1OSO/T13CKI (io), 33 NC/~{ICRST}/ICVPP, 34 NC/ICPORTS, 35 RC1/T1OSI/CCP2 (io), 36 RC2/CCP1/P1A (io), 37 RC3/SCK/SCL (io), 38 RD0/PSP0 (io), 39 RD1/PSP1 (io), 40 RD2/PSP2 (io), 41 RD3/PSP3 (io), 42 RC4/SDI/SDA (io), 43 RC5/SDO (io), 44 RC6/TX/CK (io)

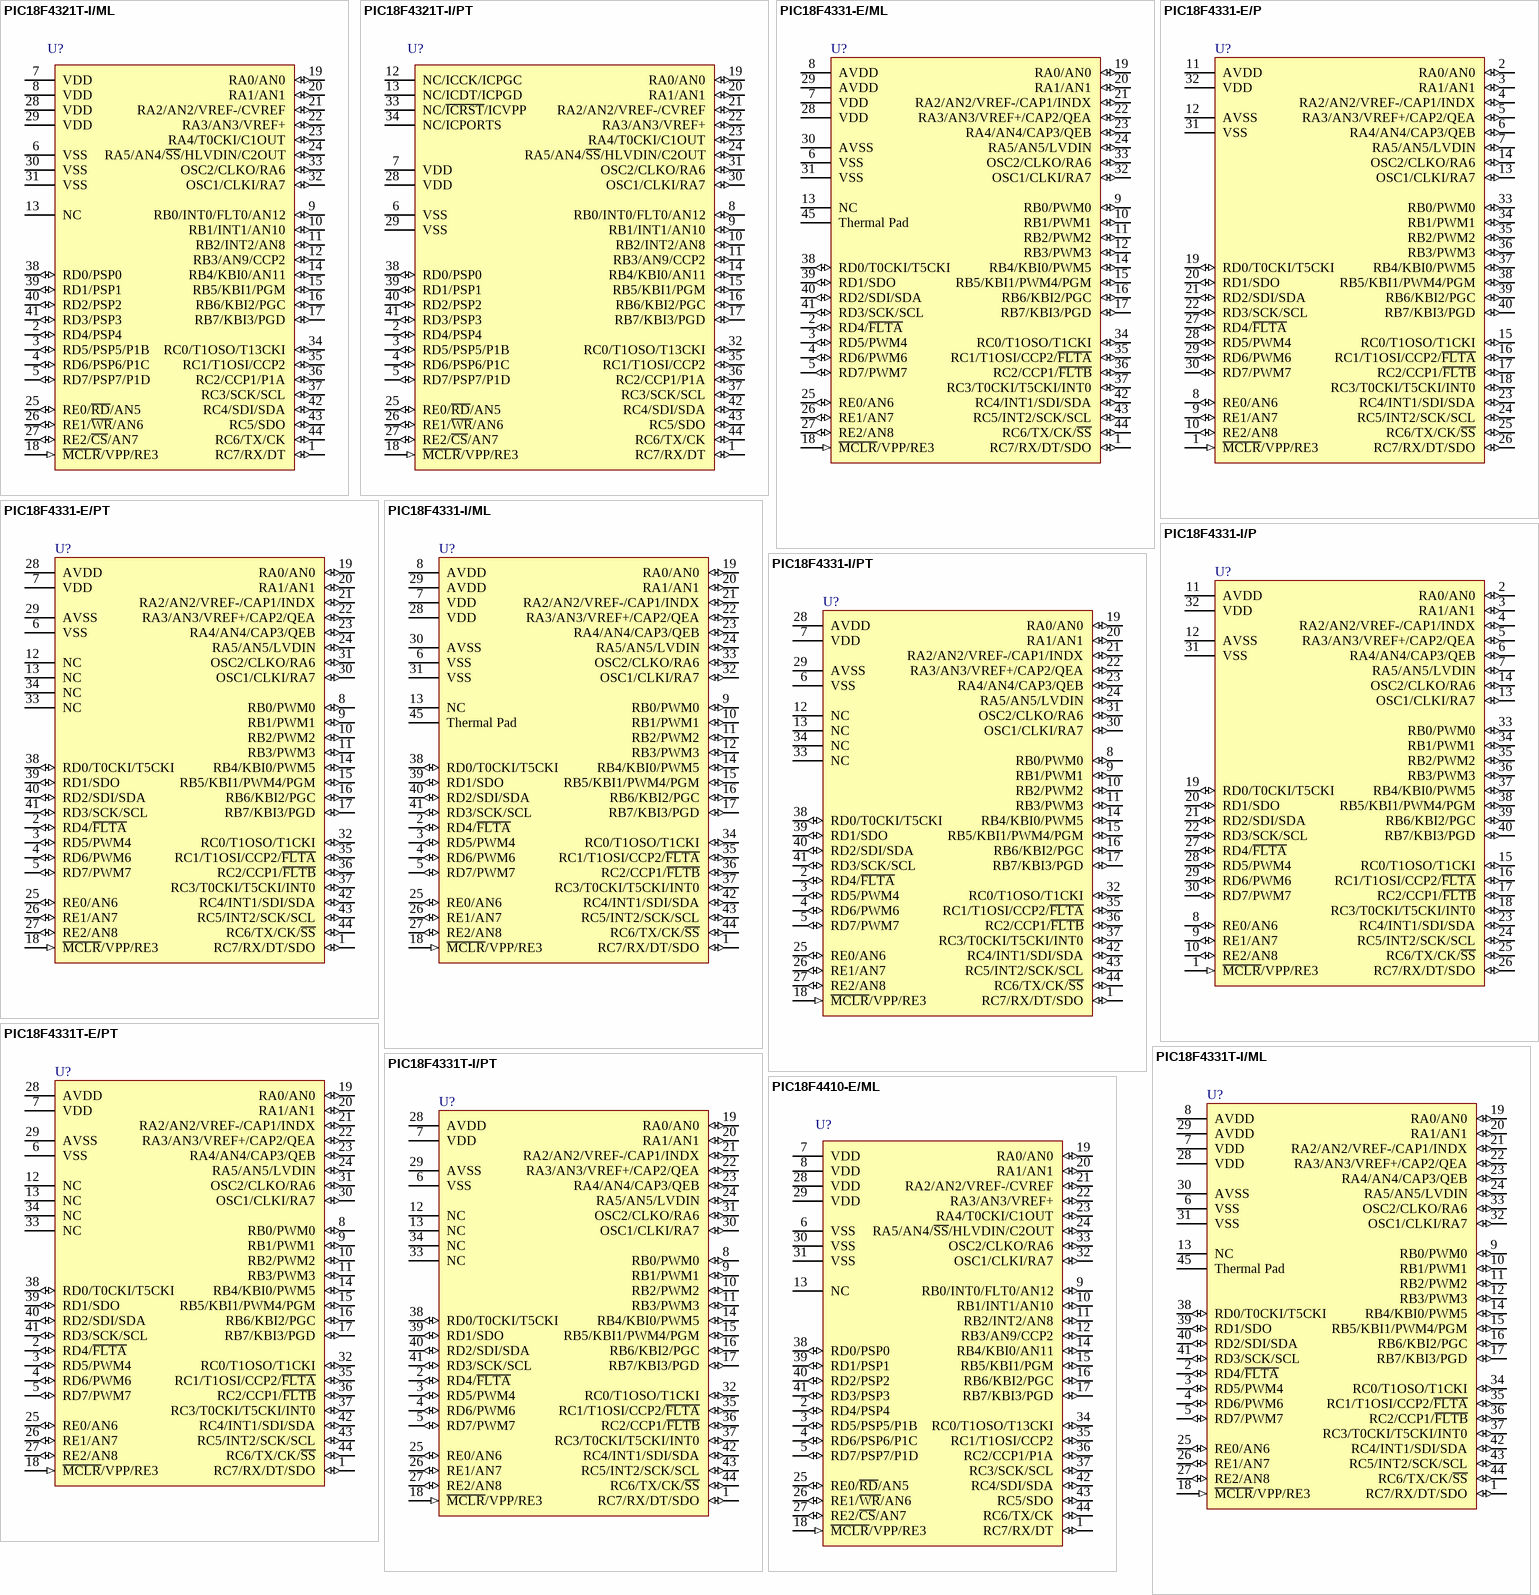
[diagram p50: symbols PIC18F4321T-I/ML to PIC18F4410-E/ML]

## PIC18F4321T-I/ML
designator U?
Enhanced Flash Microcontroller with 10-Bit A/D and nanoWatt Technology, 8K Flash, 44-Pin QFN, Industrial Temperature Range, Tape and Reel; Published: 29-Jan-2009; DatasheetVersion: revE, Feb-2007; PackageVersion: revAW, Oct-2008; PackageReference: QFN-ML44; Publisher: Altium Limited; PackageDescription: 44-Lead Plastic Quad Flat, No Lead Package (ML) - 8x8 mm Body [QFN]; Code_JEDEC: MO-220; Code_IPC: QFN65P800X800-44V2; ComponentLink1Description: Manufacturer Link; ComponentLink1URL: http://www.microchip.com; ComponentLink2Description: Datasheet; ComponentLink2URL: http://ww1.microchip.com/downloads/en/DeviceDoc/39689E.pdf; ComponentLink3Description: Packaging Specification; ComponentLink3URL: http://ww1.microchip.com/downloads/en/PackagingSpec/00049AW.pdf
footprint QFN-ML44_N (QFN, 44-Leads, Body 8x8 mm, Pitch 0.65mm, IPC Medium Density)
footprint QFN-ML44_L (QFN, 44-Leads, Body 8x8 mm, Pitch 0.65mm, IPC High Density)
footprint QFN-ML44_M (QFN, 44-Leads, Body 8x8 mm, Pitch 0.65mm, IPC Low Density)
pins: 1 RC7/RX/DT (io), 2 RD4/PSP4 (io), 3 RD5/PSP5/P1B (io), 4 RD6/PSP6/P1C (io), 5 RD7/PSP7/P1D (io), 6 VSS (power), 7 VDD (power), 8 VDD (power), 9 RB0/INT0/FLT0/AN12 (io), 10 RB1/INT1/AN10 (io), 11 RB2/INT2/AN8 (io), 12 RB3/AN9/CCP2 (io), 13 NC, 14 RB4/KBI0/AN11 (io), 15 RB5/KBI1/PGM (io), 16 RB6/KBI2/PGC (io), 17 RB7/KBI3/PGD (io), 18 ~{MCLR}/VPP/RE3 (in), 19 RA0/AN0 (io), 20 RA1/AN1 (io), 21 RA2/AN2/VREF-/CVREF (io), 22 RA3/AN3/VREF+ (io), 23 RA4/T0CKI/C1OUT (io), 24 RA5/AN4/~{SS}/HLVDIN/C2OUT (io), 25 RE0/~{RD}/AN5 (io), 26 RE1/~{WR}/AN6 (io), 27 RE2/~{CS}/AN7 (io), 28 VDD (power), 29 VDD (power), 30 VSS (power), 31 VSS (power), 32 OSC1/CLKI/RA7 (io), 33 OSC2/CLKO/RA6 (io), 34 RC0/T1OSO/T13CKI (io), 35 RC1/T1OSI/CCP2 (io), 36 RC2/CCP1/P1A (io), 37 RC3/SCK/SCL (io), 38 RD0/PSP0 (io), 39 RD1/PSP1 (io), 40 RD2/PSP2 (io), 41 RD3/PSP3 (io), 42 RC4/SDI/SDA (io), 43 RC5/SDO (io), 44 RC6/TX/CK (io)

## PIC18F4321T-I/PT
designator U?
Enhanced Flash Microcontroller with 10-Bit A/D and nanoWatt Technology, 8K Flash, 44-Pin TQFP, Industrial Temperature Range, Tape and Reel; Published: 29-Jan-2009; DatasheetVersion: revE, Feb-2007; PackageVersion: revAW, Oct-2008; PackageReference: TQFP-PT44; Publisher: Altium Limited; PackageDescription: 44-Lead Plastic Thin Quad Flatpack (PT) - 10x10x1mm Body, 2.00mm [TQFP]; Code_JEDEC: MS-026; ComponentLink1Description: Manufacturer Link; ComponentLink1URL: http://www.microchip.com; ComponentLink2Description: Datasheet; ComponentLink2URL: http://ww1.microchip.com/downloads/en/DeviceDoc/39689E.pdf; ComponentLink3Description: Packaging Specification; ComponentLink3URL: http://ww1.microchip.com/downloads/en/PackagingSpec/00049AW.pdf
footprint TQFP-PT44_N (Thin QFP, 44-Leads, Body 10x10mm, Pitch 0.8mm, IPC Medium Density)
footprint TQFP-PT44_L (Thin QFP, 44-Leads, Body 10x10mm, Pitch 0.8mm, IPC High Density)
footprint TQFP-PT44_M (Thin QFP, 44-Leads, Body 10x10mm, Pitch 0.8mm, IPC Low Density)
pins: 1 RC7/RX/DT (io), 2 RD4/PSP4 (io), 3 RD5/PSP5/P1B (io), 4 RD6/PSP6/P1C (io), 5 RD7/PSP7/P1D (io), 6 VSS (power), 7 VDD (power), 8 RB0/INT0/FLT0/AN12 (io), 9 RB1/INT1/AN10 (io), 10 RB2/INT2/AN8 (io), 11 RB3/AN9/CCP2 (io), 12 NC/ICCK/ICPGC, 13 NC/ICDT/ICPGD, 14 RB4/KBI0/AN11 (io), 15 RB5/KBI1/PGM (io), 16 RB6/KBI2/PGC (io), 17 RB7/KBI3/PGD (io), 18 ~{MCLR}/VPP/RE3 (in), 19 RA0/AN0 (io), 20 RA1/AN1 (io), 21 RA2/AN2/VREF-/CVREF (io), 22 RA3/AN3/VREF+ (io), 23 RA4/T0CKI/C1OUT (io), 24 RA5/AN4/~{SS}/HLVDIN/C2OUT (io), 25 RE0/~{RD}/AN5 (io), 26 RE1/~{WR}/AN6 (io), 27 RE2/~{CS}/AN7 (io), 28 VDD (power), 29 VSS (power), 30 OSC1/CLKI/RA7 (io), 31 OSC2/CLKO/RA6 (io), 32 RC0/T1OSO/T13CKI (io), 33 NC/~{ICRST}/ICVPP, 34 NC/ICPORTS, 35 RC1/T1OSI/CCP2 (io), 36 RC2/CCP1/P1A (io), 37 RC3/SCK/SCL (io), 38 RD0/PSP0 (io), 39 RD1/PSP1 (io), 40 RD2/PSP2 (io), 41 RD3/PSP3 (io), 42 RC4/SDI/SDA (io), 43 RC5/SDO (io), 44 RC6/TX/CK (io)

## PIC18F4331-E/ML
designator U?
Enhanced Flash Microcontroller with nanoWatt Technology, High Performance PWM and A/D, 8K Flash, 44-Pin QFN, Extended Temperature Range; Published: 29-Jan-2009; DatasheetVersion: revC, Jul-2007; PackageVersion: revAW, Oct-2008; PackageReference: QFN-ML44; Publisher: Altium Limited; PackageDescription: 44-Lead Plastic Quad Flat, No Lead Package (ML) - 8x8 mm Body [QFN]; Code_JEDEC: MO-220; Code_IPC: QFN65P800X800-44V2; ComponentLink1Description: Manufacturer Link; ComponentLink1URL: http://www.microchip.com; ComponentLink2Description: Datasheet; ComponentLink2URL: http://ww1.microchip.com/downloads/en/DeviceDoc/39616C.pdf; ComponentLink3Description: Packaging Specification; ComponentLink3URL: http://ww1.microchip.com/downloads/en/PackagingSpec/00049AW.pdf
footprint QFN-ML44_N (QFN, 44-Leads, Body 8x8 mm, Pitch 0.65mm, IPC Medium Density)
footprint QFN-ML44_L (QFN, 44-Leads, Body 8x8 mm, Pitch 0.65mm, IPC High Density)
footprint QFN-ML44_M (QFN, 44-Leads, Body 8x8 mm, Pitch 0.65mm, IPC Low Density)
pins: 1 RC7/RX/DT/SDO (io), 2 RD4/~{FLTA} (io), 3 RD5/PWM4 (io), 4 RD6/PWM6 (io), 5 RD7/PWM7 (io), 6 VSS (power), 7 VDD (power), 8 AVDD (power), 9 RB0/PWM0 (io), 10 RB1/PWM1 (io), 11 RB2/PWM2 (io), 12 RB3/PWM3 (io), 13 NC, 14 RB4/KBI0/PWM5 (io), 15 RB5/KBI1/PWM4/PGM (io), 16 RB6/KBI2/PGC (io), 17 RB7/KBI3/PGD (io), 18 ~{MCLR}/VPP/RE3 (in), 19 RA0/AN0 (io), 20 RA1/AN1 (io), 21 RA2/AN2/VREF-/CAP1/INDX (io), 22 RA3/AN3/VREF+/CAP2/QEA (io), 23 RA4/AN4/CAP3/QEB (io), 24 RA5/AN5/LVDIN (io), 25 RE0/AN6 (io), 26 RE1/AN7 (io), 27 RE2/AN8 (io), 28 VDD (power), 29 AVDD (power), 30 AVSS (power), 31 VSS (power), 32 OSC1/CLKI/RA7 (io), 33 OSC2/CLKO/RA6 (io), 34 RC0/T1OSO/T1CKI (io), 35 RC1/T1OSI/CCP2/~{FLTA} (io), 36 RC2/CCP1/~{FLTB} (io), 37 RC3/T0CKI/T5CKI/INT0 (io), 38 RD0/T0CKI/T5CKI (io), 39 RD1/SDO (io), 40 RD2/SDI/SDA (io), 41 RD3/SCK/SCL (io), 42 RC4/INT1/SDI/SDA (io), 43 RC5/INT2/SCK/SCL (io), 44 RC6/TX/CK/~{SS} (io), 45 Thermal Pad (power)

## PIC18F4331-E/P
designator U?
Enhanced Flash Microcontroller with nanoWatt Technology, High Performance PWM and A/D, 8K Flash, 40-Pin PDIP, Extended Temperature Range; Published: 29-Jan-2009; DatasheetVersion: revC, Jul-2007; PackageVersion: revAW, Oct-2008; PackageReference: PDIP600-P40; Publisher: Altium Limited; PackageDescription: 40-Lead Plastic Dual In-Line (P) - 600 mil Body [PDIP]; ComponentLink1Description: Manufacturer Link; ComponentLink1URL: http://www.microchip.com; ComponentLink2Description: Datasheet; ComponentLink2URL: http://ww1.microchip.com/downloads/en/DeviceDoc/39616C.pdf; ComponentLink3Description: Packaging Specification; ComponentLink3URL: http://ww1.microchip.com/downloads/en/PackagingSpec/00049AW.pdf
footprint PDIP600-P40 (DIP, 40-Leads, Row Spacing 15.24mm, Pitch 2.54mm, Body 51.8x13.5mm)
pins: 1 ~{MCLR}/VPP/RE3 (in), 2 RA0/AN0 (io), 3 RA1/AN1 (io), 4 RA2/AN2/VREF-/CAP1/INDX (io), 5 RA3/AN3/VREF+/CAP2/QEA (io), 6 RA4/AN4/CAP3/QEB (io), 7 RA5/AN5/LVDIN (io), 8 RE0/AN6 (io), 9 RE1/AN7 (io), 10 RE2/AN8 (io), 11 AVDD (power), 12 AVSS (power), 13 OSC1/CLKI/RA7 (io), 14 OSC2/CLKO/RA6 (io), 15 RC0/T1OSO/T1CKI (io), 16 RC1/T1OSI/CCP2/~{FLTA} (io), 17 RC2/CCP1/~{FLTB} (io), 18 RC3/T0CKI/T5CKI/INT0 (io), 19 RD0/T0CKI/T5CKI (io), 20 RD1/SDO (io), 21 RD2/SDI/SDA (io), 22 RD3/SCK/SCL (io), 23 RC4/INT1/SDI/SDA (io), 24 RC5/INT2/SCK/SCL (io), 25 RC6/TX/CK/~{SS} (io), 26 RC7/RX/DT/SDO (io), 27 RD4/~{FLTA} (io), 28 RD5/PWM4 (io), 29 RD6/PWM6 (io), 30 RD7/PWM7 (io), 31 VSS (power), 32 VDD (power), 33 RB0/PWM0 (io), 34 RB1/PWM1 (io), 35 RB2/PWM2 (io), 36 RB3/PWM3 (io), 37 RB4/KBI0/PWM5 (io), 38 RB5/KBI1/PWM4/PGM (io), 39 RB6/KBI2/PGC (io), 40 RB7/KBI3/PGD (io)

## PIC18F4331-E/PT
designator U?
Enhanced Flash Microcontroller with nanoWatt Technology, High Performance PWM and A/D, 8K Flash, 44-Pin TQFP, Extended Temperature Range; Published: 29-Jan-2009; DatasheetVersion: revC, Jul-2007; PackageVersion: revAW, Oct-2008; PackageReference: TQFP-PT44; Publisher: Altium Limited; PackageDescription: 44-Lead Plastic Thin Quad Flatpack (PT) - 10x10x1mm Body, 2.00mm [TQFP]; Code_JEDEC: MS-026; ComponentLink1Description: Manufacturer Link; ComponentLink1URL: http://www.microchip.com; ComponentLink2Description: Datasheet; ComponentLink2URL: http://ww1.microchip.com/downloads/en/DeviceDoc/39616C.pdf; ComponentLink3Description: Packaging Specification; ComponentLink3URL: http://ww1.microchip.com/downloads/en/PackagingSpec/00049AW.pdf
footprint TQFP-PT44_N (Thin QFP, 44-Leads, Body 10x10mm, Pitch 0.8mm, IPC Medium Density)
footprint TQFP-PT44_L (Thin QFP, 44-Leads, Body 10x10mm, Pitch 0.8mm, IPC High Density)
footprint TQFP-PT44_M (Thin QFP, 44-Leads, Body 10x10mm, Pitch 0.8mm, IPC Low Density)
pins: 1 RC7/RX/DT/SDO (io), 2 RD4/~{FLTA} (io), 3 RD5/PWM4 (io), 4 RD6/PWM6 (io), 5 RD7/PWM7 (io), 6 VSS (power), 7 VDD (power), 8 RB0/PWM0 (io), 9 RB1/PWM1 (io), 10 RB2/PWM2 (io), 11 RB3/PWM3 (io), 12 NC, 13 NC, 14 RB4/KBI0/PWM5 (io), 15 RB5/KBI1/PWM4/PGM (io), 16 RB6/KBI2/PGC (io), 17 RB7/KBI3/PGD (io), 18 ~{MCLR}/VPP/RE3 (in), 19 RA0/AN0 (io), 20 RA1/AN1 (io), 21 RA2/AN2/VREF-/CAP1/INDX (io), 22 RA3/AN3/VREF+/CAP2/QEA (io), 23 RA4/AN4/CAP3/QEB (io), 24 RA5/AN5/LVDIN (io), 25 RE0/AN6 (io), 26 RE1/AN7 (io), 27 RE2/AN8 (io), 28 AVDD (power), 29 AVSS (power), 30 OSC1/CLKI/RA7 (io), 31 OSC2/CLKO/RA6 (io), 32 RC0/T1OSO/T1CKI (io), 33 NC, 34 NC, 35 RC1/T1OSI/CCP2/~{FLTA} (io), 36 RC2/CCP1/~{FLTB} (io), 37 RC3/T0CKI/T5CKI/INT0 (io), 38 RD0/T0CKI/T5CKI (io), 39 RD1/SDO (io), 40 RD2/SDI/SDA (io), 41 RD3/SCK/SCL (io), 42 RC4/INT1/SDI/SDA (io), 43 RC5/INT2/SCK/SCL (io), 44 RC6/TX/CK/~{SS} (io)

## PIC18F4331-I/ML
designator U?
Enhanced Flash Microcontroller with nanoWatt Technology, High Performance PWM and A/D, 8K Flash, 44-Pin QFN, Industrial Temperature; Published: 11-Oct-2004; LatestRevisionDate: 29-Jan-2009; LatestRevisionNote: Sch. layout revised. 3D Model Removed.; DatasheetVersion: revC, Jul-2007; PackageVersion: revAW, Oct-2008; PackageReference: QFN-ML44; Publisher: Altium Limited; PackageDescription: 44-Lead Plastic Quad Flat, No Lead Package (ML) - 8x8 mm Body [QFN]; Code_JEDEC: MO-220; Code_IPC: QFN65P800X800-44V2; ComponentLink1Description: Manufacturer Link; ComponentLink1URL: http://www.microchip.com; ComponentLink2Description: Datasheet; ComponentLink2URL: http://ww1.microchip.com/downloads/en/DeviceDoc/39616C.pdf; ComponentLink3Description: Packaging Specification; ComponentLink3URL: http://ww1.microchip.com/downloads/en/PackagingSpec/00049AW.pdf
footprint QFN-ML44_N (QFN, 44-Leads, Body 8x8 mm, Pitch 0.65mm, IPC Medium Density)
footprint QFN-ML44_L (QFN, 44-Leads, Body 8x8 mm, Pitch 0.65mm, IPC High Density)
footprint QFN-ML44_M (QFN, 44-Leads, Body 8x8 mm, Pitch 0.65mm, IPC Low Density)
pins: 1 RC7/RX/DT/SDO (io), 2 RD4/~{FLTA} (io), 3 RD5/PWM4 (io), 4 RD6/PWM6 (io), 5 RD7/PWM7 (io), 6 VSS (power), 7 VDD (power), 8 AVDD (power), 9 RB0/PWM0 (io), 10 RB1/PWM1 (io), 11 RB2/PWM2 (io), 12 RB3/PWM3 (io), 13 NC, 14 RB4/KBI0/PWM5 (io), 15 RB5/KBI1/PWM4/PGM (io), 16 RB6/KBI2/PGC (io), 17 RB7/KBI3/PGD (io), 18 ~{MCLR}/VPP/RE3 (in), 19 RA0/AN0 (io), 20 RA1/AN1 (io), 21 RA2/AN2/VREF-/CAP1/INDX (io), 22 RA3/AN3/VREF+/CAP2/QEA (io), 23 RA4/AN4/CAP3/QEB (io), 24 RA5/AN5/LVDIN (io), 25 RE0/AN6 (io), 26 RE1/AN7 (io), 27 RE2/AN8 (io), 28 VDD (power), 29 AVDD (power), 30 AVSS (power), 31 VSS (power), 32 OSC1/CLKI/RA7 (io), 33 OSC2/CLKO/RA6 (io), 34 RC0/T1OSO/T1CKI (io), 35 RC1/T1OSI/CCP2/~{FLTA} (io), 36 RC2/CCP1/~{FLTB} (io), 37 RC3/T0CKI/T5CKI/INT0 (io), 38 RD0/T0CKI/T5CKI (io), 39 RD1/SDO (io), 40 RD2/SDI/SDA (io), 41 RD3/SCK/SCL (io), 42 RC4/INT1/SDI/SDA (io), 43 RC5/INT2/SCK/SCL (io), 44 RC6/TX/CK/~{SS} (io), 45 Thermal Pad (power)

## PIC18F4331-I/P
designator U?
Enhanced Flash Microcontroller with nanoWatt Technology, High Performance PWM and A/D, 8K Flash, 40-Pin PDIP, Industrial Temperature; Published: 11-Oct-2004; LatestRevisionDate: 29-Jan-2009; LatestRevisionNote: Sch. layout revised. 3D Model Removed.; DatasheetVersion: revC, Jul-2007; PackageVersion: revAW, Oct-2008; PackageReference: PDIP600-P40; Publisher: Altium Limited; PackageDescription: 40-Lead Plastic Dual In-Line (P) - 600 mil Body [PDIP]; ComponentLink1Description: Manufacturer Link; ComponentLink1URL: http://www.microchip.com; ComponentLink2Description: Datasheet; ComponentLink2URL: http://ww1.microchip.com/downloads/en/DeviceDoc/39616C.pdf; ComponentLink3Description: Packaging Specification; ComponentLink3URL: http://ww1.microchip.com/downloads/en/PackagingSpec/00049AW.pdf
footprint PDIP600-P40 (DIP, 40-Leads, Row Spacing 15.24mm, Pitch 2.54mm, Body 51.8x13.5mm)
pins: 1 ~{MCLR}/VPP/RE3 (in), 2 RA0/AN0 (io), 3 RA1/AN1 (io), 4 RA2/AN2/VREF-/CAP1/INDX (io), 5 RA3/AN3/VREF+/CAP2/QEA (io), 6 RA4/AN4/CAP3/QEB (io), 7 RA5/AN5/LVDIN (io), 8 RE0/AN6 (io), 9 RE1/AN7 (io), 10 RE2/AN8 (io), 11 AVDD (power), 12 AVSS (power), 13 OSC1/CLKI/RA7 (io), 14 OSC2/CLKO/RA6 (io), 15 RC0/T1OSO/T1CKI (io), 16 RC1/T1OSI/CCP2/~{FLTA} (io), 17 RC2/CCP1/~{FLTB} (io), 18 RC3/T0CKI/T5CKI/INT0 (io), 19 RD0/T0CKI/T5CKI (io), 20 RD1/SDO (io), 21 RD2/SDI/SDA (io), 22 RD3/SCK/SCL (io), 23 RC4/INT1/SDI/SDA (io), 24 RC5/INT2/SCK/SCL (io), 25 RC6/TX/CK/~{SS} (io), 26 RC7/RX/DT/SDO (io), 27 RD4/~{FLTA} (io), 28 RD5/PWM4 (io), 29 RD6/PWM6 (io), 30 RD7/PWM7 (io), 31 VSS (power), 32 VDD (power), 33 RB0/PWM0 (io), 34 RB1/PWM1 (io), 35 RB2/PWM2 (io), 36 RB3/PWM3 (io), 37 RB4/KBI0/PWM5 (io), 38 RB5/KBI1/PWM4/PGM (io), 39 RB6/KBI2/PGC (io), 40 RB7/KBI3/PGD (io)

## PIC18F4331-I/PT
designator U?
Enhanced Flash Microcontroller with nanoWatt Technology, High Performance PWM and A/D, 8K Flash, 44-Pin TQFP, Industrial Temperature; Published: 11-Oct-2004; LatestRevisionDate: 29-Jan-2009; LatestRevisionNote: Sch. layout revised. 3D Model Removed.; DatasheetVersion: revC, Jul-2007; PackageVersion: revAW, Oct-2008; PackageReference: TQFP-PT44; Publisher: Altium Limited; PackageDescription: 44-Lead Plastic Thin Quad Flatpack (PT) - 10x10x1mm Body, 2.00mm [TQFP]; Code_JEDEC: MS-026; ComponentLink1Description: Manufacturer Link; ComponentLink1URL: http://www.microchip.com; ComponentLink2Description: Datasheet; ComponentLink2URL: http://ww1.microchip.com/downloads/en/DeviceDoc/39616C.pdf; ComponentLink3Description: Packaging Specification; ComponentLink3URL: http://ww1.microchip.com/downloads/en/PackagingSpec/00049AW.pdf
footprint TQFP-PT44_N (Thin QFP, 44-Leads, Body 10x10mm, Pitch 0.8mm, IPC Medium Density)
footprint TQFP-PT44_L (Thin QFP, 44-Leads, Body 10x10mm, Pitch 0.8mm, IPC High Density)
footprint TQFP-PT44_M (Thin QFP, 44-Leads, Body 10x10mm, Pitch 0.8mm, IPC Low Density)
pins: 1 RC7/RX/DT/SDO (io), 2 RD4/~{FLTA} (io), 3 RD5/PWM4 (io), 4 RD6/PWM6 (io), 5 RD7/PWM7 (io), 6 VSS (power), 7 VDD (power), 8 RB0/PWM0 (io), 9 RB1/PWM1 (io), 10 RB2/PWM2 (io), 11 RB3/PWM3 (io), 12 NC, 13 NC, 14 RB4/KBI0/PWM5 (io), 15 RB5/KBI1/PWM4/PGM (io), 16 RB6/KBI2/PGC (io), 17 RB7/KBI3/PGD (io), 18 ~{MCLR}/VPP/RE3 (in), 19 RA0/AN0 (io), 20 RA1/AN1 (io), 21 RA2/AN2/VREF-/CAP1/INDX (io), 22 RA3/AN3/VREF+/CAP2/QEA (io), 23 RA4/AN4/CAP3/QEB (io), 24 RA5/AN5/LVDIN (io), 25 RE0/AN6 (io), 26 RE1/AN7 (io), 27 RE2/AN8 (io), 28 AVDD (power), 29 AVSS (power), 30 OSC1/CLKI/RA7 (io), 31 OSC2/CLKO/RA6 (io), 32 RC0/T1OSO/T1CKI (io), 33 NC, 34 NC, 35 RC1/T1OSI/CCP2/~{FLTA} (io), 36 RC2/CCP1/~{FLTB} (io), 37 RC3/T0CKI/T5CKI/INT0 (io), 38 RD0/T0CKI/T5CKI (io), 39 RD1/SDO (io), 40 RD2/SDI/SDA (io), 41 RD3/SCK/SCL (io), 42 RC4/INT1/SDI/SDA (io), 43 RC5/INT2/SCK/SCL (io), 44 RC6/TX/CK/~{SS} (io)

## PIC18F4331T-E/PT
designator U?
Enhanced Flash Microcontroller with nanoWatt Technology, High Performance PWM and A/D, 8K Flash, 44-Pin TQFP, Extended Temperature Range, Tape and Reel; Published: 29-Jan-2009; DatasheetVersion: revC, Jul-2007; PackageVersion: revAW, Oct-2008; PackageReference: TQFP-PT44; Publisher: Altium Limited; PackageDescription: 44-Lead Plastic Thin Quad Flatpack (PT) - 10x10x1mm Body, 2.00mm [TQFP]; Code_JEDEC: MS-026; ComponentLink1Description: Manufacturer Link; ComponentLink1URL: http://www.microchip.com; ComponentLink2Description: Datasheet; ComponentLink2URL: http://ww1.microchip.com/downloads/en/DeviceDoc/39616C.pdf; ComponentLink3Description: Packaging Specification; ComponentLink3URL: http://ww1.microchip.com/downloads/en/PackagingSpec/00049AW.pdf
footprint TQFP-PT44_N (Thin QFP, 44-Leads, Body 10x10mm, Pitch 0.8mm, IPC Medium Density)
footprint TQFP-PT44_L (Thin QFP, 44-Leads, Body 10x10mm, Pitch 0.8mm, IPC High Density)
footprint TQFP-PT44_M (Thin QFP, 44-Leads, Body 10x10mm, Pitch 0.8mm, IPC Low Density)
pins: 1 RC7/RX/DT/SDO (io), 2 RD4/~{FLTA} (io), 3 RD5/PWM4 (io), 4 RD6/PWM6 (io), 5 RD7/PWM7 (io), 6 VSS (power), 7 VDD (power), 8 RB0/PWM0 (io), 9 RB1/PWM1 (io), 10 RB2/PWM2 (io), 11 RB3/PWM3 (io), 12 NC, 13 NC, 14 RB4/KBI0/PWM5 (io), 15 RB5/KBI1/PWM4/PGM (io), 16 RB6/KBI2/PGC (io), 17 RB7/KBI3/PGD (io), 18 ~{MCLR}/VPP/RE3 (in), 19 RA0/AN0 (io), 20 RA1/AN1 (io), 21 RA2/AN2/VREF-/CAP1/INDX (io), 22 RA3/AN3/VREF+/CAP2/QEA (io), 23 RA4/AN4/CAP3/QEB (io), 24 RA5/AN5/LVDIN (io), 25 RE0/AN6 (io), 26 RE1/AN7 (io), 27 RE2/AN8 (io), 28 AVDD (power), 29 AVSS (power), 30 OSC1/CLKI/RA7 (io), 31 OSC2/CLKO/RA6 (io), 32 RC0/T1OSO/T1CKI (io), 33 NC, 34 NC, 35 RC1/T1OSI/CCP2/~{FLTA} (io), 36 RC2/CCP1/~{FLTB} (io), 37 RC3/T0CKI/T5CKI/INT0 (io), 38 RD0/T0CKI/T5CKI (io), 39 RD1/SDO (io), 40 RD2/SDI/SDA (io), 41 RD3/SCK/SCL (io), 42 RC4/INT1/SDI/SDA (io), 43 RC5/INT2/SCK/SCL (io), 44 RC6/TX/CK/~{SS} (io)

## PIC18F4331T-I/ML
designator U?
Enhanced Flash Microcontroller with nanoWatt Technology, High Performance PWM and A/D, 8K Flash, 44-Pin QFN, Industrial Temperature, Tape and Reel; Published: 11-Oct-2004; LatestRevisionDate: 29-Jan-2009; LatestRevisionNote: Sch. layout revised. 3D Model Removed.; DatasheetVersion: revC, Jul-2007; PackageVersion: revAW, Oct-2008; PackageReference: QFN-ML44; Publisher: Altium Limited; PackageDescription: 44-Lead Plastic Quad Flat, No Lead Package (ML) - 8x8 mm Body [QFN]; Code_JEDEC: MO-220; Code_IPC: QFN65P800X800-44V2; ComponentLink1Description: Manufacturer Link; ComponentLink1URL: http://www.microchip.com; ComponentLink2Description: Datasheet; ComponentLink2URL: http://ww1.microchip.com/downloads/en/DeviceDoc/39616C.pdf; ComponentLink3Description: Packaging Specification; ComponentLink3URL: http://ww1.microchip.com/downloads/en/PackagingSpec/00049AW.pdf
footprint QFN-ML44_N (QFN, 44-Leads, Body 8x8 mm, Pitch 0.65mm, IPC Medium Density)
footprint QFN-ML44_L (QFN, 44-Leads, Body 8x8 mm, Pitch 0.65mm, IPC High Density)
footprint QFN-ML44_M (QFN, 44-Leads, Body 8x8 mm, Pitch 0.65mm, IPC Low Density)
pins: 1 RC7/RX/DT/SDO (io), 2 RD4/~{FLTA} (io), 3 RD5/PWM4 (io), 4 RD6/PWM6 (io), 5 RD7/PWM7 (io), 6 VSS (power), 7 VDD (power), 8 AVDD (power), 9 RB0/PWM0 (io), 10 RB1/PWM1 (io), 11 RB2/PWM2 (io), 12 RB3/PWM3 (io), 13 NC, 14 RB4/KBI0/PWM5 (io), 15 RB5/KBI1/PWM4/PGM (io), 16 RB6/KBI2/PGC (io), 17 RB7/KBI3/PGD (io), 18 ~{MCLR}/VPP/RE3 (in), 19 RA0/AN0 (io), 20 RA1/AN1 (io), 21 RA2/AN2/VREF-/CAP1/INDX (io), 22 RA3/AN3/VREF+/CAP2/QEA (io), 23 RA4/AN4/CAP3/QEB (io), 24 RA5/AN5/LVDIN (io), 25 RE0/AN6 (io), 26 RE1/AN7 (io), 27 RE2/AN8 (io), 28 VDD (power), 29 AVDD (power), 30 AVSS (power), 31 VSS (power), 32 OSC1/CLKI/RA7 (io), 33 OSC2/CLKO/RA6 (io), 34 RC0/T1OSO/T1CKI (io), 35 RC1/T1OSI/CCP2/~{FLTA} (io), 36 RC2/CCP1/~{FLTB} (io), 37 RC3/T0CKI/T5CKI/INT0 (io), 38 RD0/T0CKI/T5CKI (io), 39 RD1/SDO (io), 40 RD2/SDI/SDA (io), 41 RD3/SCK/SCL (io), 42 RC4/INT1/SDI/SDA (io), 43 RC5/INT2/SCK/SCL (io), 44 RC6/TX/CK/~{SS} (io), 45 Thermal Pad (power)

## PIC18F4331T-I/PT
designator U?
Enhanced Flash Microcontroller with nanoWatt Technology, High Performance PWM and A/D, 8K Flash, 44-Pin TQFP, Industrial Temperature, Tape and Reel; Published: 11-Oct-2004; LatestRevisionDate: 29-Jan-2009; LatestRevisionNote: Sch. layout revised. 3D Model Removed.; DatasheetVersion: revC, Jul-2007; PackageVersion: revAW, Oct-2008; PackageReference: TQFP-PT44; Publisher: Altium Limited; PackageDescription: 44-Lead Plastic Thin Quad Flatpack (PT) - 10x10x1mm Body, 2.00mm [TQFP]; Code_JEDEC: MS-026; ComponentLink1Description: Manufacturer Link; ComponentLink1URL: http://www.microchip.com; ComponentLink2Description: Datasheet; ComponentLink2URL: http://ww1.microchip.com/downloads/en/DeviceDoc/39616C.pdf; ComponentLink3Description: Packaging Specification; ComponentLink3URL: http://ww1.microchip.com/downloads/en/PackagingSpec/00049AW.pdf
footprint TQFP-PT44_N (Thin QFP, 44-Leads, Body 10x10mm, Pitch 0.8mm, IPC Medium Density)
footprint TQFP-PT44_L (Thin QFP, 44-Leads, Body 10x10mm, Pitch 0.8mm, IPC High Density)
footprint TQFP-PT44_M (Thin QFP, 44-Leads, Body 10x10mm, Pitch 0.8mm, IPC Low Density)
pins: 1 RC7/RX/DT/SDO (io), 2 RD4/~{FLTA} (io), 3 RD5/PWM4 (io), 4 RD6/PWM6 (io), 5 RD7/PWM7 (io), 6 VSS (power), 7 VDD (power), 8 RB0/PWM0 (io), 9 RB1/PWM1 (io), 10 RB2/PWM2 (io), 11 RB3/PWM3 (io), 12 NC, 13 NC, 14 RB4/KBI0/PWM5 (io), 15 RB5/KBI1/PWM4/PGM (io), 16 RB6/KBI2/PGC (io), 17 RB7/KBI3/PGD (io), 18 ~{MCLR}/VPP/RE3 (in), 19 RA0/AN0 (io), 20 RA1/AN1 (io), 21 RA2/AN2/VREF-/CAP1/INDX (io), 22 RA3/AN3/VREF+/CAP2/QEA (io), 23 RA4/AN4/CAP3/QEB (io), 24 RA5/AN5/LVDIN (io), 25 RE0/AN6 (io), 26 RE1/AN7 (io), 27 RE2/AN8 (io), 28 AVDD (power), 29 AVSS (power), 30 OSC1/CLKI/RA7 (io), 31 OSC2/CLKO/RA6 (io), 32 RC0/T1OSO/T1CKI (io), 33 NC, 34 NC, 35 RC1/T1OSI/CCP2/~{FLTA} (io), 36 RC2/CCP1/~{FLTB} (io), 37 RC3/T0CKI/T5CKI/INT0 (io), 38 RD0/T0CKI/T5CKI (io), 39 RD1/SDO (io), 40 RD2/SDI/SDA (io), 41 RD3/SCK/SCL (io), 42 RC4/INT1/SDI/SDA (io), 43 RC5/INT2/SCK/SCL (io), 44 RC6/TX/CK/~{SS} (io)

## PIC18F4410-E/ML
designator U?
Flash Microcontroller with 10-Bit A/D and nanoWatt Technology, 16K Flash, 44-Pin QFN, Extended Temperature Range; Published: 29-Jan-2009; DatasheetVersion: revC, Jan-2007; PackageVersion: revAW, Oct-2008; PackageReference: QFN-ML44; Publisher: Altium Limited; PackageDescription: 44-Lead Plastic Quad Flat, No Lead Package (ML) - 8x8 mm Body [QFN]; Code_JEDEC: MO-220; Code_IPC: QFN65P800X800-44V2; ComponentLink1Description: Manufacturer Link; ComponentLink1URL: http://www.microchip.com; ComponentLink2Description: Datasheet; ComponentLink2URL: http://ww1.microchip.com/downloads/en/DeviceDoc/39636c.pdf; ComponentLink3Description: Packaging Specification; ComponentLink3URL: http://ww1.microchip.com/downloads/en/PackagingSpec/00049AW.pdf
footprint QFN-ML44_N (QFN, 44-Leads, Body 8x8 mm, Pitch 0.65mm, IPC Medium Density)
footprint QFN-ML44_L (QFN, 44-Leads, Body 8x8 mm, Pitch 0.65mm, IPC High Density)
footprint QFN-ML44_M (QFN, 44-Leads, Body 8x8 mm, Pitch 0.65mm, IPC Low Density)
pins: 1 RC7/RX/DT (io), 2 RD4/PSP4 (io), 3 RD5/PSP5/P1B (io), 4 RD6/PSP6/P1C (io), 5 RD7/PSP7/P1D (io), 6 VSS (power), 7 VDD (power), 8 VDD (power), 9 RB0/INT0/FLT0/AN12 (io), 10 RB1/INT1/AN10 (io), 11 RB2/INT2/AN8 (io), 12 RB3/AN9/CCP2 (io), 13 NC, 14 RB4/KBI0/AN11 (io), 15 RB5/KBI1/PGM (io), 16 RB6/KBI2/PGC (io), 17 RB7/KBI3/PGD (io), 18 ~{MCLR}/VPP/RE3 (in), 19 RA0/AN0 (io), 20 RA1/AN1 (io), 21 RA2/AN2/VREF-/CVREF (io), 22 RA3/AN3/VREF+ (io), 23 RA4/T0CKI/C1OUT (io), 24 RA5/AN4/~{SS}/HLVDIN/C2OUT (io), 25 RE0/~{RD}/AN5 (io), 26 RE1/~{WR}/AN6 (io), 27 RE2/~{CS}/AN7 (io), 28 VDD (power), 29 VDD (power), 30 VSS (power), 31 VSS (power), 32 OSC1/CLKI/RA7 (io), 33 OSC2/CLKO/RA6 (io), 34 RC0/T1OSO/T13CKI (io), 35 RC1/T1OSI/CCP2 (io), 36 RC2/CCP1/P1A (io), 37 RC3/SCK/SCL (io), 38 RD0/PSP0 (io), 39 RD1/PSP1 (io), 40 RD2/PSP2 (io), 41 RD3/PSP3 (io), 42 RC4/SDI/SDA (io), 43 RC5/SDO (io), 44 RC6/TX/CK (io)

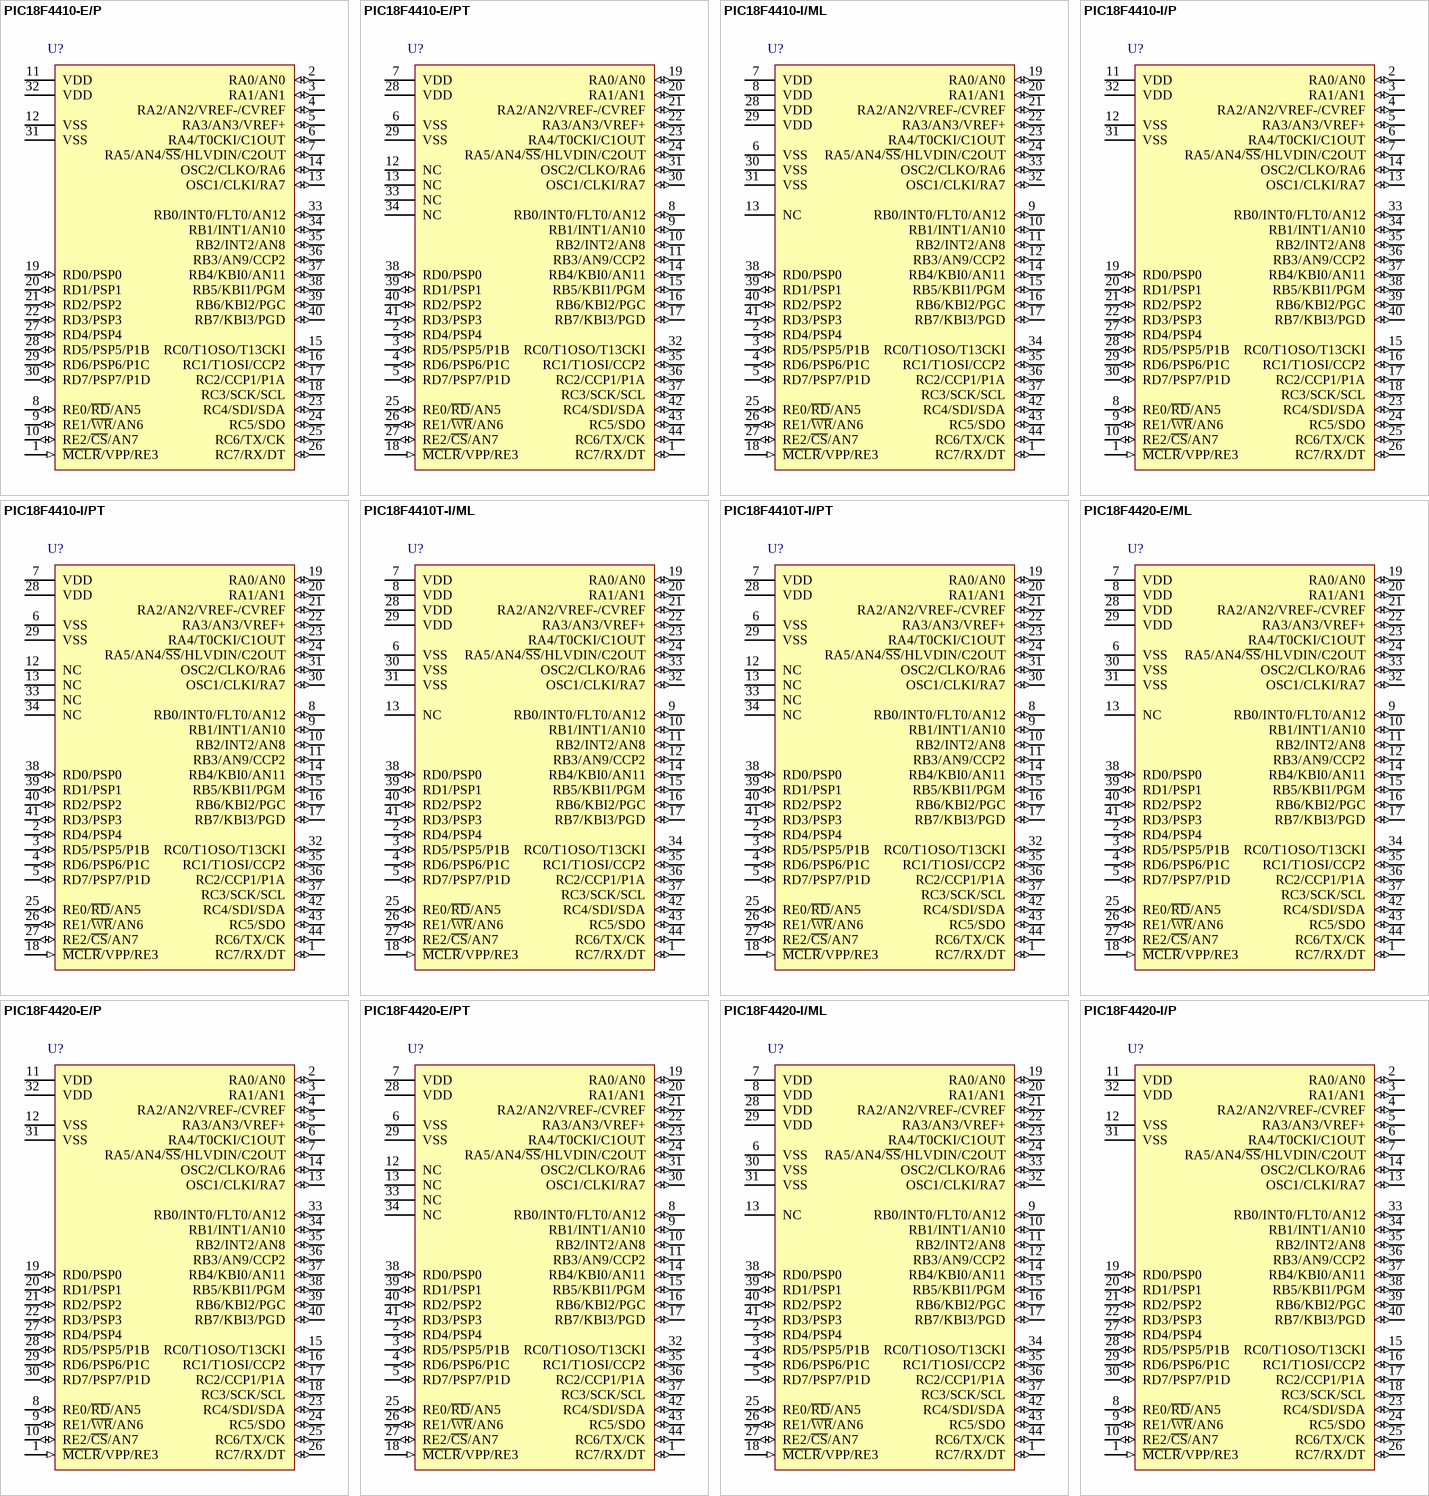
[diagram p51: symbols PIC18F4410-E/P to PIC18F4420-I/P]